# Altium schematic symbol library connectors.SchLib: 228 symbols (part 1 of 2)
Pins are listed as number, name and electrical type; pins without a type are passive.

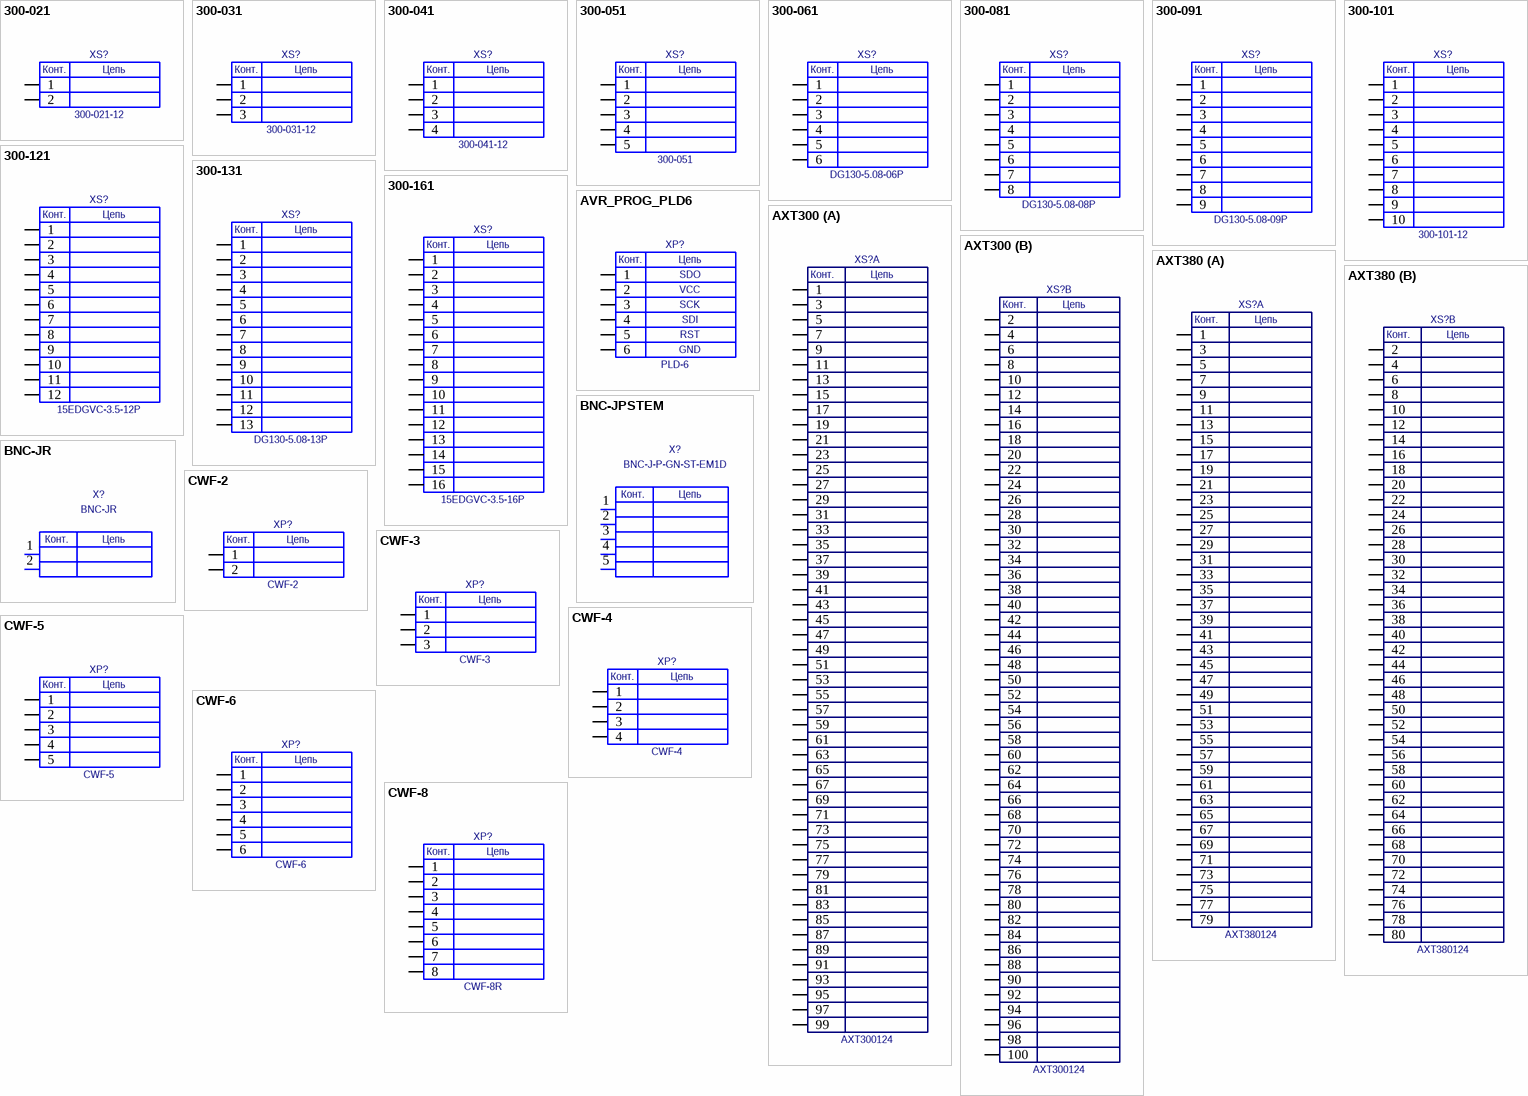
[diagram p0: symbols 300-021 to CWF-8]

## 300-021
designator XS?, comment 300-021-12
Terminal block 3.5/3.81/5/5.08mm pitch; Value: 300-021-12
footprint 300-021
footprint DG130-5.08-02P
footprint ECH381R-02P
footprint ECH381V-02P
footprint 2EDGR-5.0-02P
footprint DG250-3.5-02P-11
pins: 1, 2
text: Конт.; Цепь

## 300-031
designator XS?, comment 300-031-12
Terminal block 3.5/3.81/5/5.08mm pitch; Value: 300-031-12
footprint 300-031
footprint DG130-5.08-03P
footprint DG340-3.81-03P
footprint DG301-5.0-03P
footprint ECH381R-03P
footprint ECH381V-03P
footprint 2EDGR-5.0-03P
footprint DG250-3.5-03P-11
pins: 1, 2, 3
text: Конт.; Цепь

## 300-041
designator XS?, comment 300-041-12
Terminal block 2.54/3.5/3.81/5/5.08mm pitch; Value: 300-041-12
footprint 300-041
footprint DG340-3.81-04P
footprint DG301-5.0-04P
footprint EHDV-04P (5.08 pitch)
footprint 15EDGVC-3.5-4P
footprint ECH381V-04P
footprint 2EDGR-5.0-04P
footprint XL-029A-4P (3.81mm pitch IDC)
footprint DG308-2.54-04P
footprint DG250-3.5-04P-11
footprint ECH381R-04P
pins: 1, 2, 3, 4
text: Конт.; Цепь

## 300-051
designator XS?
Terminal block 3.5/3.81mm pitch; Value: 300-051
footprint 15EDGVC-3.5-5P
footprint ECH381V-05P
footprint 2EDGR-5.0-05P
footprint DG250-3.5-05P-11
footprint ECH381R-05P
pins: 1, 2, 3, 4, 5
text: Конт.; Цепь

## 300-061
designator XS?, comment DG130-5.08-06P
Terminal block 2.54/3.5/3.81/5mm pitch; Value: DG130-5.08-06P
footprint 2EDGR-5.0-06P
footprint DG340-3.81-06P
footprint DG308-2.54-06P
footprint DG250-3.5-06P-11
footprint ECH381R-06P
pins: 1, 2, 3, 4, 5, 6
text: Конт.; Цепь

## 300-081
designator XS?, comment DG130-5.08-08P
Terminal block 2.54/3.5/3.81/5/5.08mm pitch; Value: DG130-5.08-08P
footprint DG340-3.81-08P
footprint DG301-5.0-08P
footprint ECH381V-08P
footprint EHDV-08P (5.08 pitch)
footprint 15EDGVC-3.5-8P
footprint 2EDGR-5.0-08P
footprint XL-029A-8P (3.81mm pitch IDC)
footprint DG308-2.54-08P
footprint DG250-3.5-08P-11
footprint ECH381R-08P
pins: 1, 2, 3, 4, 5, 6, 7, 8
text: Конт.; Цепь

## 300-091
designator XS?, comment DG130-5.08-09P
Terminal block 5.08mm pitch; Value: DG130-5.08-09P
footprint DG130-5.08-09P
pins: 1, 2, 3, 4, 5, 6, 7, 8, 9
text: Конт.; Цепь

## 300-101
designator XS?, comment 300-101-12
Terminal block 3.5/3.81/5/5.08mm pitch; Value: 300-101-12
footprint ECH381V-10P
footprint 15EDGVC-3.5-10P
footprint DG130-5.08-10P
footprint 300-101
footprint DG308-2.54-10P
footprint DG250-3.5-10P-11
footprint ECH381R-10P
pins: 1, 2, 3, 4, 5, 6, 7, 8, 9, 10
text: Конт.; Цепь

## 300-121
designator XS?, comment 15EDGVC-3.5-12P
Terminal block 3.5/3.81mm pitch; Value: 15EDGVC-3.5-12P
footprint 15EDGVC-3.5-12P
footprint DG340-3.81-12P
pins: 1, 2, 3, 4, 5, 6, 7, 8, 9, 10, 11, 12
text: Конт.; Цепь

## 300-131
designator XS?, comment DG130-5.08-13P
Terminal block 5.08mm pitch; Value: DG130-5.08-13P
footprint DG130-5.08-13P
pins: 1, 2, 3, 4, 5, 6, 7, 8, 9, 10, 11, 12, 13
text: Конт.; Цепь

## 300-161
designator XS?, comment 15EDGVC-3.5-16P
Terminal block 3.5mm pitch; Value: 15EDGVC-3.5-16P
footprint 15EDGVC-3.5-16P
pins: 1, 2, 3, 4, 5, 6, 7, 8, 9, 10, 11, 12, 13, 14, 15, 16
text: Конт.; Цепь

## AVR_PROG_PLD6
designator XP?, comment PLD-6
AVR_PROG_PLD6; Value: PLD-6
footprint PLD-6
pins: 1, 2, 3, 4, 5, 6
text: Конт.; Цепь; SDO; VCC; SCK; SDI; RST; GND

## AXT300
designator XS?, comment AXT300124
0.4mm pitch double row; Value: AXT300124
footprint AXT300
footprint AXT400
footprint 52885-1074
part A pins: 1, 3, 5, 7, 9, 11, 13, 15, 17, 19, 21, 23, 25, 27, 29, 31, 33, 35, 37, 39, 41, 43, 45, 47, 49, 51, 53, 55, 57, 59, 61, 63, 65, 67, 69, 71, 73, 75, 77, 79, 81, 83, 85, 87, 89, 91, 93, 95, 97, 99
part B pins: 2, 4, 6, 8, 10, 12, 14, 16, 18, 20, 22, 24, 26, 28, 30, 32, 34, 36, 38, 40, 42, 44, 46, 48, 50, 52, 54, 56, 58, 60, 62, 64, 66, 68, 70, 72, 74, 76, 78, 80, 82, 84, 86, 88, 90, 92, 94, 96, 98, 100
part A text: Конт.; Цепь
part B text: Конт.; Цепь

## AXT380
designator XS?, comment AXT380124
0.4mm pitch double row; Value: AXT380124
footprint AXT380
footprint AXT480
part A pins: 1, 3, 5, 7, 9, 11, 13, 15, 17, 19, 21, 23, 25, 27, 29, 31, 33, 35, 37, 39, 41, 43, 45, 47, 49, 51, 53, 55, 57, 59, 61, 63, 65, 67, 69, 71, 73, 75, 77, 79
part B pins: 2, 4, 6, 8, 10, 12, 14, 16, 18, 20, 22, 24, 26, 28, 30, 32, 34, 36, 38, 40, 42, 44, 46, 48, 50, 52, 54, 56, 58, 60, 62, 64, 66, 68, 70, 72, 74, 76, 78, 80
part A text: Конт.; Цепь
part B text: Конт.; Цепь

## BNC-JPSTEM
designator X?  value BNC-J-P-GN-ST-EM1D  (hidden comment: BNC-JPSTEM)
footprint BNC-JPSTER
footprint BNC-JPSTER-step
pins: 1 C, 2 C (power), 3 C (power), 4 C (power), 5 C (power)
text: Конт.; Цепь

## BNC-JR
designator X?
Value: BNC-JR
footprint BNC-JR
pins: 1 SIGNAL, 2 SHIELD, 3 hidden, 4 hidden
text: Конт.; Цепь

## CWF-2
designator XP?
Value: CWF-2
footprint CWF-2
footprint CWF-2R
pins: 1, 2
text: Конт.; Цепь

## CWF-3
designator XP?
2.5mm pitch; Value: CWF-3
footprint CWF-3
footprint CWF-3R
pins: 1, 2, 3
text: Конт.; Цепь

## CWF-4
designator XP?
Value: CWF-4
footprint CWF-4
footprint CWF-4R
pins: 1, 2, 3, 4
text: Конт.; Цепь

## CWF-5
designator XP?
2.50mm; Value: CWF-5
footprint CWF-5
footprint CWF-5R
pins: 1, 2, 3, 4, 5
text: Конт.; Цепь

## CWF-6
designator XP?
Value: CWF-6
footprint CWF-6
footprint CWF-6R
pins: 1, 2, 3, 4, 5, 6
text: Конт.; Цепь

## CWF-8
designator XP?, comment CWF-8R
CWF-8; Value: CWF-8R
footprint CWF-8R
footprint CWF-8
pins: 1, 2, 3, 4, 5, 6, 7, 8
text: Конт.; Цепь

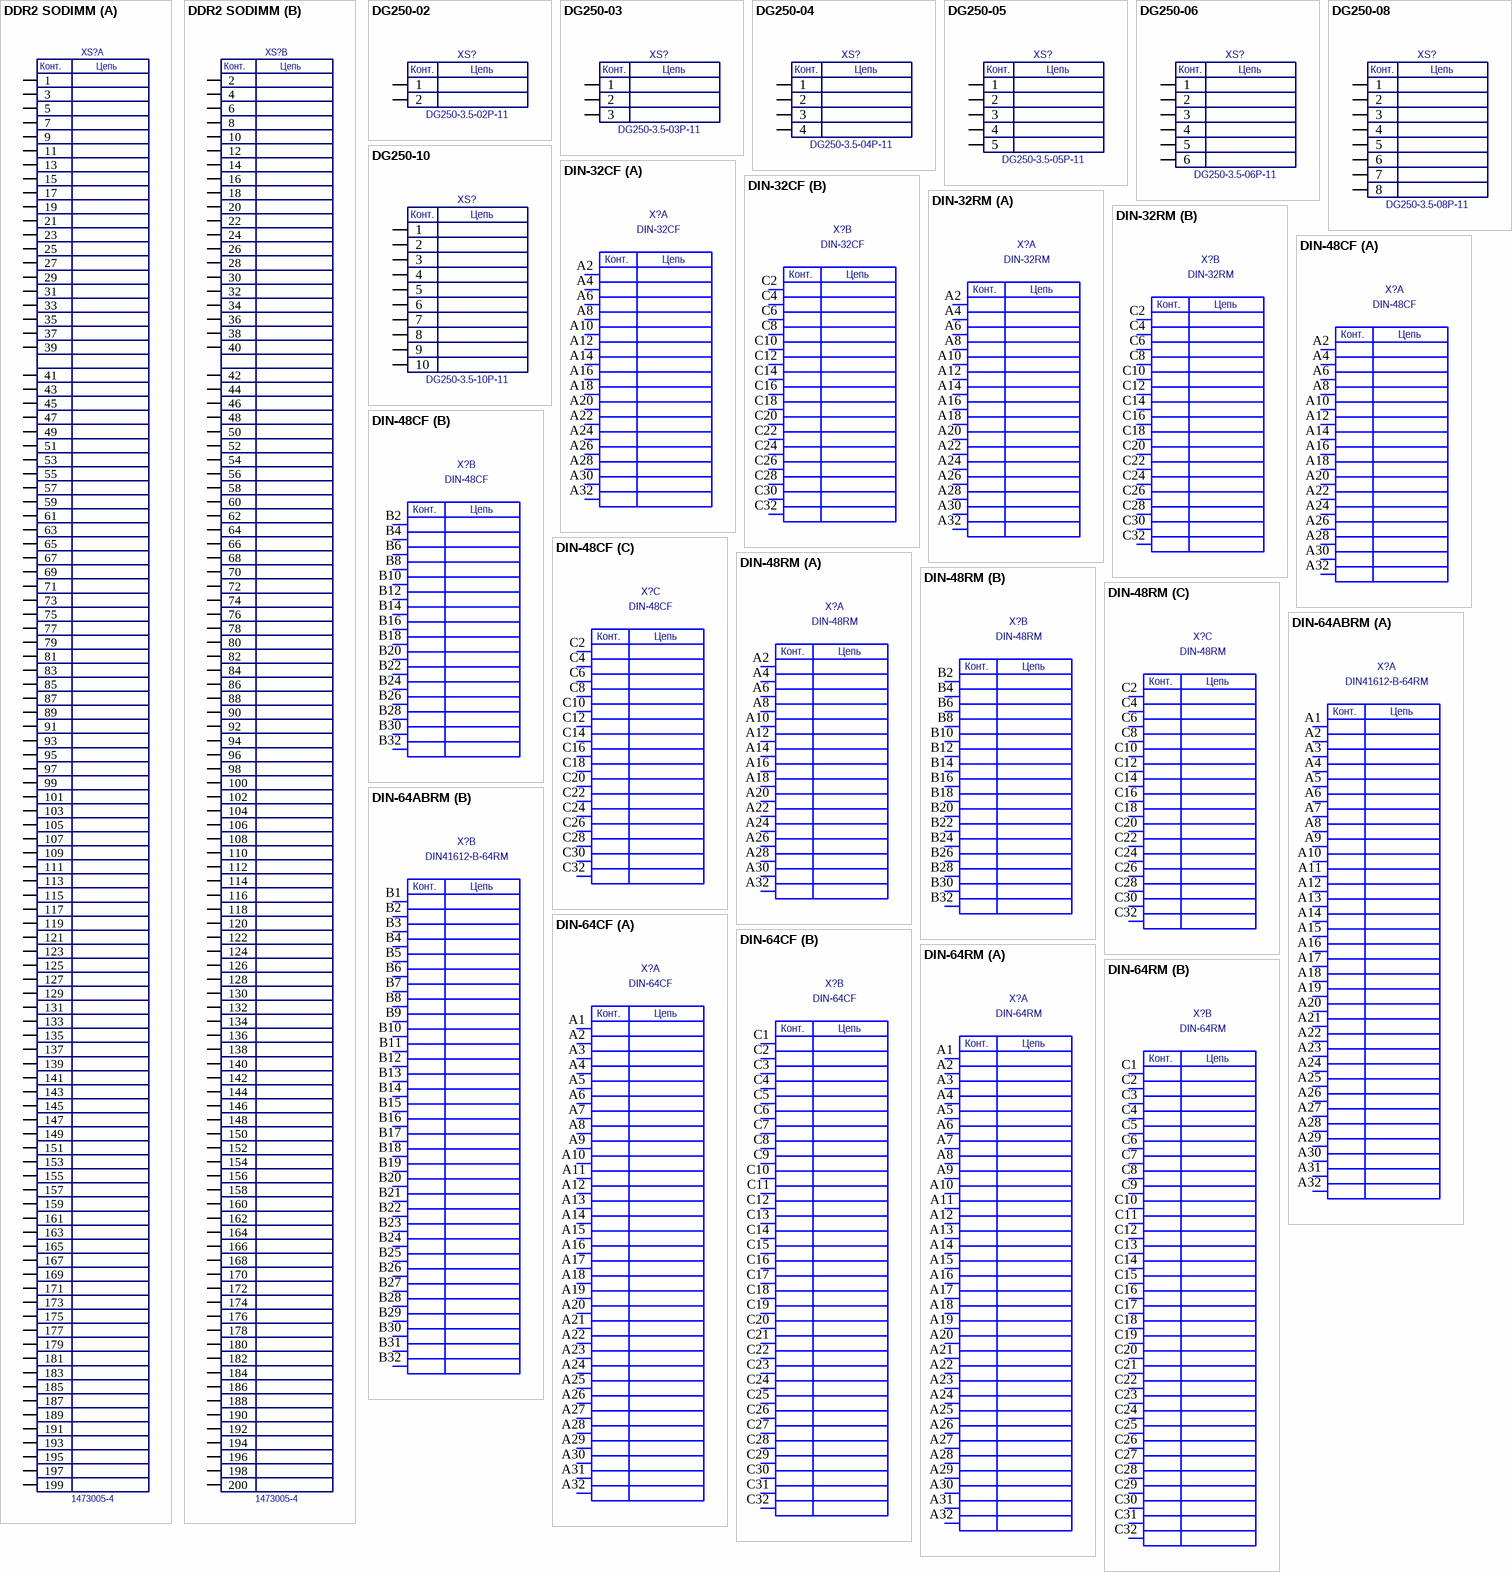
[diagram p1: symbols DDR2 SODIMM to DIN-64RM]

## DDR2 SODIMM
designator XS?, comment 1473005-4
Value: 1473005-4
footprint DDR2 SODIMM
part A pins: 1, 3, 5, 7, 9, 11, 13, 15, 17, 19, 21, 23, 25, 27, 29, 31, 33, 35, 37, 39, 41, 43, 45, 47, 49, 51, 53, 55, 57, 59, 61, 63, 65, 67, 69, 71, 73, 75, 77, 79, 81, 83, 85, 87, 89, 91, 93, 95, 97, 99, 101, 103, 105, 107, 109, 111, 113, 115, 117, 119, 121, 123, 125, 127, 129, 131, 133, 135, 137, 139, 141, 143, 145, 147, 149, 151, 153, 155, 157, 159, 161, 163, 165, 167, 169, 171, 173, 175, 177, 179, 181, 183, 185, 187, 189, 191, 193, 195, 197, 199
part B pins: 2, 4, 6, 8, 10, 12, 14, 16, 18, 20, 22, 24, 26, 28, 30, 32, 34, 36, 38, 40, 42, 44, 46, 48, 50, 52, 54, 56, 58, 60, 62, 64, 66, 68, 70, 72, 74, 76, 78, 80, 82, 84, 86, 88, 90, 92, 94, 96, 98, 100, 102, 104, 106, 108, 110, 112, 114, 116, 118, 120, 122, 124, 126, 128, 130, 132, 134, 136, 138, 140, 142, 144, 146, 148, 150, 152, 154, 156, 158, 160, 162, 164, 166, 168, 170, 172, 174, 176, 178, 180, 182, 184, 186, 188, 190, 192, 194, 196, 198, 200
part A text: Конт.; Цепь
part B text: Конт.; Цепь

## DG250-02
designator XS?, comment DG250-3.5-02P-11
Push-button terminal block 3.5mm pitch; Value: DG250-3.5-02P-11
footprint DG250-3.5-02P-UNI
pins: 1, 1A, 2, 2A
text: Конт.; Цепь

## DG250-03
designator XS?, comment DG250-3.5-03P-11
Push-button terminal block 3.5mm pitch; Value: DG250-3.5-03P-11
footprint DG250-3.5-03P-UNI
pins: 1, 1A, 2, 2A, 3, 3A
text: Конт.; Цепь

## DG250-04
designator XS?, comment DG250-3.5-04P-11
Push-button terminal block 3.5mm pitch; Value: DG250-3.5-04P-11
footprint DG250-3.5-04P-UNI
pins: 1, 1A, 2, 2A, 3, 3A, 4, 4A
text: Конт.; Цепь

## DG250-05
designator XS?, comment DG250-3.5-05P-11
Push-button terminal block 3.5mm pitch; Value: DG250-3.5-05P-11
footprint DG250-3.5-05P-UNI
pins: 1, 1A, 2, 2A, 3, 3A, 4, 4A, 5, 5A
text: Конт.; Цепь

## DG250-06
designator XS?, comment DG250-3.5-06P-11
Push-button terminal block 3.5mm pitch; Value: DG250-3.5-06P-11
footprint DG250-3.5-06P-UNI
pins: 1, 1A, 2, 2A, 3, 3A, 4, 4A, 5, 5A, 6, 6A
text: Конт.; Цепь

## DG250-08
designator XS?, comment DG250-3.5-08P-11
Push-button terminal block 3.5mm pitch; Value: DG250-3.5-08P-11
footprint DG250-3.5-08P-UNI
pins: 1, 1A, 2, 2A, 3, 3A, 4, 4A, 5, 5A, 6, 6A, 7, 7A, 8, 8A
text: Конт.; Цепь

## DG250-10
designator XS?, comment DG250-3.5-10P-11
Push-button terminal block 3.5mm pitch; Value: DG250-3.5-10P-11
footprint DG250-3.5-10P-UNI
pins: 1, 1A, 2, 2A, 3, 3A, 4, 4A, 5, 5A, 6, 6A, 7, 7A, 8, 8A, 9, 9A, 10, 10A
text: Конт.; Цепь

## DIN-32CF
designator X?
Value: DIN-32CF
footprint DIN32CF_DIN-32CF(Primary)
pins on every part: 1 hidden, 2 hidden
part A pins: A2 C, A4 C, A6 C, A8 C, A10 C, A12 C, A14 C, A16 C, A18 C, A20 C, A22 C, A24 C, A26 C, A28 C, A30 C, A32 C
part B pins: C2 C, C4 C, C6 C, C8 C, C10 C, C12 C, C14 C, C16 C, C18 C, C20 C, C22 C, C24 C, C26 C, C28 C, C30 C, C32 C
part A text: Конт.; Цепь
part B text: Конт.; Цепь

## DIN-32RM
designator X?
Value: DIN-32RM
footprint DIN32RM_DIN-32RM(Primary)
pins on every part: 1 hidden, 2 hidden
part A pins: A2 C, A4 C, A6 C, A8 C, A10 C, A12 C, A14 C, A16 C, A18 C, A20 C, A22 C, A24 C, A26 C, A28 C, A30 C, A32 C
part B pins: C2 C, C4 C, C6 C, C8 C, C10 C, C12 C, C14 C, C16 C, C18 C, C20 C, C22 C, C24 C, C26 C, C28 C, C30 C, C32 C
part A text: Конт.; Цепь
part B text: Конт.; Цепь

## DIN-48CF
designator X?
Value: DIN-48CF
footprint DIN48CF_DIN-48CF(Primary)
pins on every part: 1 hidden, 2 hidden
part A pins: A2 C, A4 C, A6 C, A8 C, A10 C, A12 C, A14 C, A16 C, A18 C, A20 C, A22 C, A24 C, A26 C, A28 C, A30 C, A32 C
part B pins: B2 C, B4 C, B6 C, B8 C, B10 C, B12 C, B14 C, B16 C, B18 C, B20 C, B22 C, B24 C, B26 C, B28 C, B30 C, B32 C
part C pins: C2 C, C4 C, C6 C, C8 C, C10 C, C12 C, C14 C, C16 C, C18 C, C20 C, C22 C, C24 C, C26 C, C28 C, C30 C, C32 C
part A text: Конт.; Цепь
part B text: Конт.; Цепь
part C text: Конт.; Цепь

## DIN-48RM
designator X?
Value: DIN-48RM
footprint DIN48RM_DIN-48RM(Primary)
pins on every part: 1 hidden, 2 hidden
part A pins: A2 C, A4 C, A6 C, A8 C, A10 C, A12 C, A14 C, A16 C, A18 C, A20 C, A22 C, A24 C, A26 C, A28 C, A30 C, A32 C
part B pins: B2 C, B4 C, B6 C, B8 C, B10 C, B12 C, B14 C, B16 C, B18 C, B20 C, B22 C, B24 C, B26 C, B28 C, B30 C, B32 C
part C pins: C2 C, C4 C, C6 C, C8 C, C10 C, C12 C, C14 C, C16 C, C18 C, C20 C, C22 C, C24 C, C26 C, C28 C, C30 C, C32 C
part A text: Конт.; Цепь
part B text: Конт.; Цепь
part C text: Конт.; Цепь

## DIN-64ABRM
designator X?  value DIN41612-B-64RM  (hidden comment: DIN-64ABRM)
footprint DIN64ABRM_DIN-64ABRM(Primary)
pins on every part: 1 hidden, 2 hidden
part A pins: A1 C, A2 C, A3 C, A4 C, A5 C, A6 C, A7 C, A8 C, A9 C, A10 C, A11 C, A12 C, A13 C, A14 C, A15 C, A16 C, A17 C, A18 C, A19 C, A20 C, A21 C, A22 C, A23 C, A24 C, A25 C, A26 C, A27 C, A28 C, A29 C, A30 C, A31 C, A32 C
part B pins: B1 C, B2 C, B3 C, B4 C, B5 C, B6 C, B7 C, B8 C, B9 C, B10 C, B11 C, B12 C, B13 C, B14 C, B15 C, B16 C, B17 C, B18 C, B19 C, B20 C, B21 C, B22 C, B23 C, B24 C, B25 C, B26 C, B27 C, B28 C, B29 C, B30 C, B31 C, B32 C
part A text: Конт.; Цепь
part B text: Конт.; Цепь

## DIN-64CF
designator X?
Value: DIN-64CF
footprint DIN64CF_DIN-64CF(Primary)
pins on every part: 1 hidden, 2 hidden
part A pins: A1 C, A2 C, A3 C, A4 C, A5 C, A6 C, A7 C, A8 C, A9 C, A10 C, A11 C, A12 C, A13 C, A14 C, A15 C, A16 C, A17 C, A18 C, A19 C, A20 C, A21 C, A22 C, A23 C, A24 C, A25 C, A26 C, A27 C, A28 C, A29 C, A30 C, A31 C, A32 C
part B pins: C1 C, C2 C, C3 C, C4 C, C5 C, C6 C, C7 C, C8 C, C9 C, C10 C, C11 C, C12 C, C13 C, C14 C, C15 C, C16 C, C17 C, C18 C, C19 C, C20 C, C21 C, C22 C, C23 C, C24 C, C25 C, C26 C, C27 C, C28 C, C29 C, C30 C, C31 C, C32 C
part A text: Конт.; Цепь
part B text: Конт.; Цепь

## DIN-64RM
designator X?
Value: DIN-64RM
footprint DIN64RM_DIN-64RM(Primary)
pins on every part: 1 hidden, 2 hidden
part A pins: A1 C, A2 C, A3 C, A4 C, A5 C, A6 C, A7 C, A8 C, A9 C, A10 C, A11 C, A12 C, A13 C, A14 C, A15 C, A16 C, A17 C, A18 C, A19 C, A20 C, A21 C, A22 C, A23 C, A24 C, A25 C, A26 C, A27 C, A28 C, A29 C, A30 C, A31 C, A32 C
part B pins: C1 C, C2 C, C3 C, C4 C, C5 C, C6 C, C7 C, C8 C, C9 C, C10 C, C11 C, C12 C, C13 C, C14 C, C15 C, C16 C, C17 C, C18 C, C19 C, C20 C, C21 C, C22 C, C23 C, C24 C, C25 C, C26 C, C27 C, C28 C, C29 C, C30 C, C31 C, C32 C
part A text: Конт.; Цепь
part B text: Конт.; Цепь

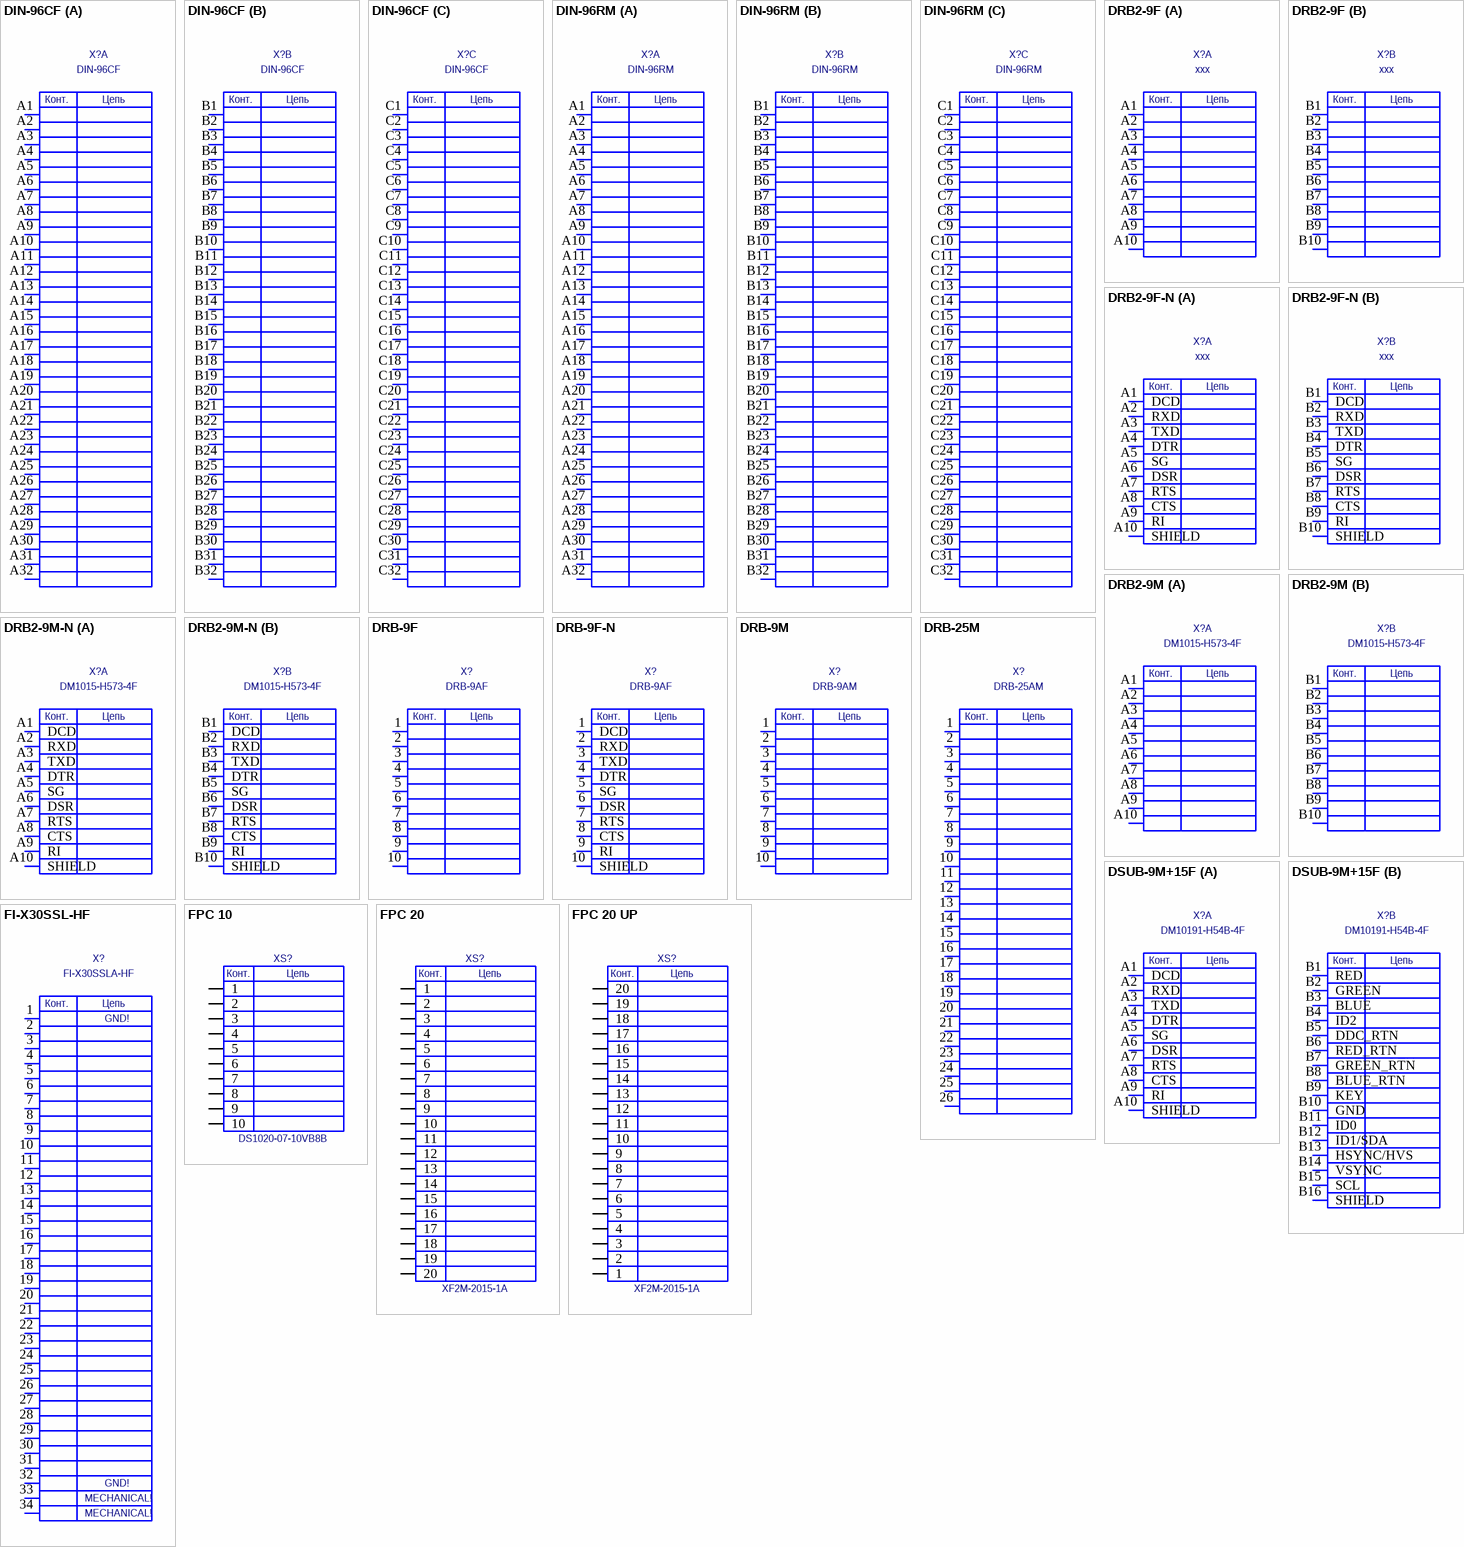
[diagram p2: symbols DIN-96CF to FPC 20 UP]

## DIN-96CF
designator X?
Value: DIN-96CF
footprint DIN96CF_DIN-96CF(Primary)
pins on every part: 1 hidden, 2 hidden
part A pins: A1 C, A2 C, A3 C, A4 C, A5 C, A6 C, A7 C, A8 C, A9 C, A10 C, A11 C, A12 C, A13 C, A14 C, A15 C, A16 C, A17 C, A18 C, A19 C, A20 C, A21 C, A22 C, A23 C, A24 C, A25 C, A26 C, A27 C, A28 C, A29 C, A30 C, A31 C, A32 C
part B pins: B1 C, B2 C, B3 C, B4 C, B5 C, B6 C, B7 C, B8 C, B9 C, B10 C, B11 C, B12 C, B13 C, B14 C, B15 C, B16 C, B17 C, B18 C, B19 C, B20 C, B21 C, B22 C, B23 C, B24 C, B25 C, B26 C, B27 C, B28 C, B29 C, B30 C, B31 C, B32 C
part C pins: C1 C, C2 C, C3 C, C4 C, C5 C, C6 C, C7 C, C8 C, C9 C, C10 C, C11 C, C12 C, C13 C, C14 C, C15 C, C16 C, C17 C, C18 C, C19 C, C20 C, C21 C, C22 C, C23 C, C24 C, C25 C, C26 C, C27 C, C28 C, C29 C, C30 C, C31 C, C32 C
part A text: Конт.; Цепь
part B text: Конт.; Цепь
part C text: Конт.; Цепь

## DIN-96RM
designator X?
Value: DIN-96RM
footprint DIN96RM_DIN-96RM(Primary)
part A pins: A1 C, A2 C, A3 C, A4 C, A5 C, A6 C, A7 C, A8 C, A9 C, A10 C, A11 C, A12 C, A13 C, A14 C, A15 C, A16 C, A17 C, A18 C, A19 C, A20 C, A21 C, A22 C, A23 C, A24 C, A25 C, A26 C, A27 C, A28 C, A29 C, A30 C, A31 C, A32 C
part B pins: B1 C, B2 C, B3 C, B4 C, B5 C, B6 C, B7 C, B8 C, B9 C, B10 C, B11 C, B12 C, B13 C, B14 C, B15 C, B16 C, B17 C, B18 C, B19 C, B20 C, B21 C, B22 C, B23 C, B24 C, B25 C, B26 C, B27 C, B28 C, B29 C, B30 C, B31 C, B32 C
part C pins: C1 C, C2 C, C3 C, C4 C, C5 C, C6 C, C7 C, C8 C, C9 C, C10 C, C11 C, C12 C, C13 C, C14 C, C15 C, C16 C, C17 C, C18 C, C19 C, C20 C, C21 C, C22 C, C23 C, C24 C, C25 C, C26 C, C27 C, C28 C, C29 C, C30 C, C31 C, C32 C
part A text: Конт.; Цепь
part B text: Конт.; Цепь
part C text: Конт.; Цепь

## DRB2-9F
designator X?  value xxx  (hidden comment: DRB2-9F)
footprint DRB2-9F_DRB2-9F(Primary)
pins on every part: A11 hidden, B11 hidden
part A pins: A1 C, A2 C, A3 C, A4 C, A5 C, A6 C, A7 C, A8 C, A9 C, A10 SHIELD
part B pins: B1 C, B2 C, B3 C, B4 C, B5 C, B6 C, B7 C, B8 C, B9 C, B10 SHIELD
part A text: Конт.; Цепь
part B text: Конт.; Цепь

## DRB2-9F-N
designator X?  value xxx  (hidden comment: DRB2-9F-N)
footprint DRB2-9F_DRB2-9F-N(Primary)
pins on every part: A11 hidden, B11 hidden
part A pins: A1 DCD, A2 RXD, A3 TXD, A4 DTR, A5 SG, A6 DSR, A7 RTS, A8 CTS, A9 RI, A10 SHIELD
part B pins: B1 DCD, B2 RXD, B3 TXD, B4 DTR, B5 SG, B6 DSR, B7 RTS, B8 CTS, B9 RI, B10 SHIELD
part A text: Конт.; Цепь
part B text: Конт.; Цепь

## DRB2-9M
designator X?  value DM1015-H573-4F  (hidden comment: DRB2-9M)
footprint DRB2-9M_DRB2-9M(Primary)
pins on every part: A11 hidden, B11 hidden
part A pins: A1 C, A2 C, A3 C, A4 C, A5 C, A6 C, A7 C, A8 C, A9 C, A10 C
part B pins: B1 C, B2 C, B3 C, B4 C, B5 C, B6 C, B7 C, B8 C, B9 C, B10 C
part A text: Конт.; Цепь
part B text: Конт.; Цепь

## DRB2-9M-N
designator X?  value DM1015-H573-4F  (hidden comment: DRB2-9M-N)
footprint DRB2-9M_DRB2-9M-N(Primary)
pins on every part: A11 hidden, B11 hidden
part A pins: A1 DCD, A2 RXD, A3 TXD, A4 DTR, A5 SG, A6 DSR, A7 RTS, A8 CTS, A9 RI, A10 SHIELD
part B pins: B1 DCD, B2 RXD, B3 TXD, B4 DTR, B5 SG, B6 DSR, B7 RTS, B8 CTS, B9 RI, B10 SHIELD
part A text: Конт.; Цепь
part B text: Конт.; Цепь

## DRB-9F
designator X?  value DRB-9AF  (hidden comment: DRB-9F)
footprint DRB-9F
pins: 1 C, 2 C, 3 C, 4 C, 5 C, 6 C, 7 C, 8 C, 9 C, 10 C, 11 hidden
text: Конт.; Цепь

## DRB-9F-N
designator X?  value DRB-9AF  (hidden comment: DRB-9F-N)
footprint DRB-9F
pins: 1 DCD, 2 RXD, 3 TXD, 4 DTR, 5 SG, 6 DSR, 7 RTS, 8 CTS, 9 RI, 10 SHIELD, 11 hidden
text: Конт.; Цепь

## DRB-9M
designator X?  value DRB-9AM  (hidden comment: DRB-9M)
footprint DRB-9M
pins: 1 C, 2 C, 3 C, 4 C, 5 C, 6 C, 7 C, 8 C, 9 C, 10 C, 11 hidden
text: Конт.; Цепь

## DRB-25M
designator X?  value DRB-25AM  (hidden comment: DRB-25M)
footprint DRB-25M
pins: 1 C, 2 C, 3 C, 4 C, 5 C, 6 C, 7 C, 8 C, 9 C, 10 C, 11 C, 12 C, 13 C, 14 C, 15 C, 16 C, 17 C, 18 C, 19 C, 20 C, 21 C, 22 C, 23 C, 24 C, 25 C, 26 C, 27 hidden
text: Конт.; Цепь

## DSUB-9M+15F
designator X?  value DM10191-H54B-4F  (hidden comment: DSUB-9M+15F)
footprint DSUB-9M+15F_DSUB-9M+15F(Primary)
pins on every part: A11 hidden, B17 hidden
part A pins: A1 DCD, A2 RXD, A3 TXD, A4 DTR, A5 SG, A6 DSR, A7 RTS, A8 CTS, A9 RI, A10 SHIELD
part B pins: B1 RED, B2 GREEN, B3 BLUE, B4 ID2, B5 DDC_RTN, B6 RED_RTN, B7 GREEN_RTN, B8 BLUE_RTN, B9 KEY, B10 GND, B11 ID0, B12 ID1/SDA, B13 HSYNC/HVS, B14 VSYNC, B15 SCL, B16 SHIELD
part A text: Конт.; Цепь
part B text: Конт.; Цепь

## FI-X30SSL-HF
designator X?, comment FI-X30SSLA-HF
Value: FI-X30SSLA-HF
footprint FI-X30SSL-HF
pins: 1 C, 2 C, 3 C, 4 C, 5 C, 6 C, 7 C, 8 C, 9 C, 10 C, 11 C, 12 C, 13 C, 14 C, 15 C, 16 C, 17 C, 18 C, 19 C, 20 C, 21 C, 22 C, 23 C, 24 C, 25 C, 26 C, 27 C, 28 C, 29 C, 30 C, 31 C, 32 C, 33 C, 34 C
text: Конт.; Цепь; GND!; MECHANICAL!

## FPC 10
designator XS?, comment DS1020-07-10VB8B
Value: DS1020-07-10VB8B
footprint FDZ-ST-10 (2.54mm pitch double FPC)
footprint FDZ-BT-10 (2.54mm pitch double FPC)
footprint DS1020-07-10A (1mm pitch bottom FPC)
footprint DS1020-07-10B (1mm pitch top FPC)
pins: 1, 2, 3, 4, 5, 6, 7, 8, 9, 10
text: Конт.; Цепь

## FPC 20
designator XS?, comment XF2M-2015-1A
Value: XF2M-2015-1A
footprint XF2M-2015-1A (T) (0.5mm pitch FPC (top contacts))
footprint XF2M-2015-1A (B) (0.5mm pitch FPC (bottom contacts))
pins: 1, 2, 3, 4, 5, 6, 7, 8, 9, 10, 11, 12, 13, 14, 15, 16, 17, 18, 19, 20
text: Конт.; Цепь

## FPC 20 UP
designator XS?, comment XF2M-2015-1A
Value: XF2M-2015-1A
footprint XF2M-2015-1A (T) (0.5mm pitch FPC (top contacts))
footprint XF2M-2015-1A (B) (0.5mm pitch FPC (bottom contacts))
pins: 1, 2, 3, 4, 5, 6, 7, 8, 9, 10, 11, 12, 13, 14, 15, 16, 17, 18, 19, 20
text: Конт.; Цепь

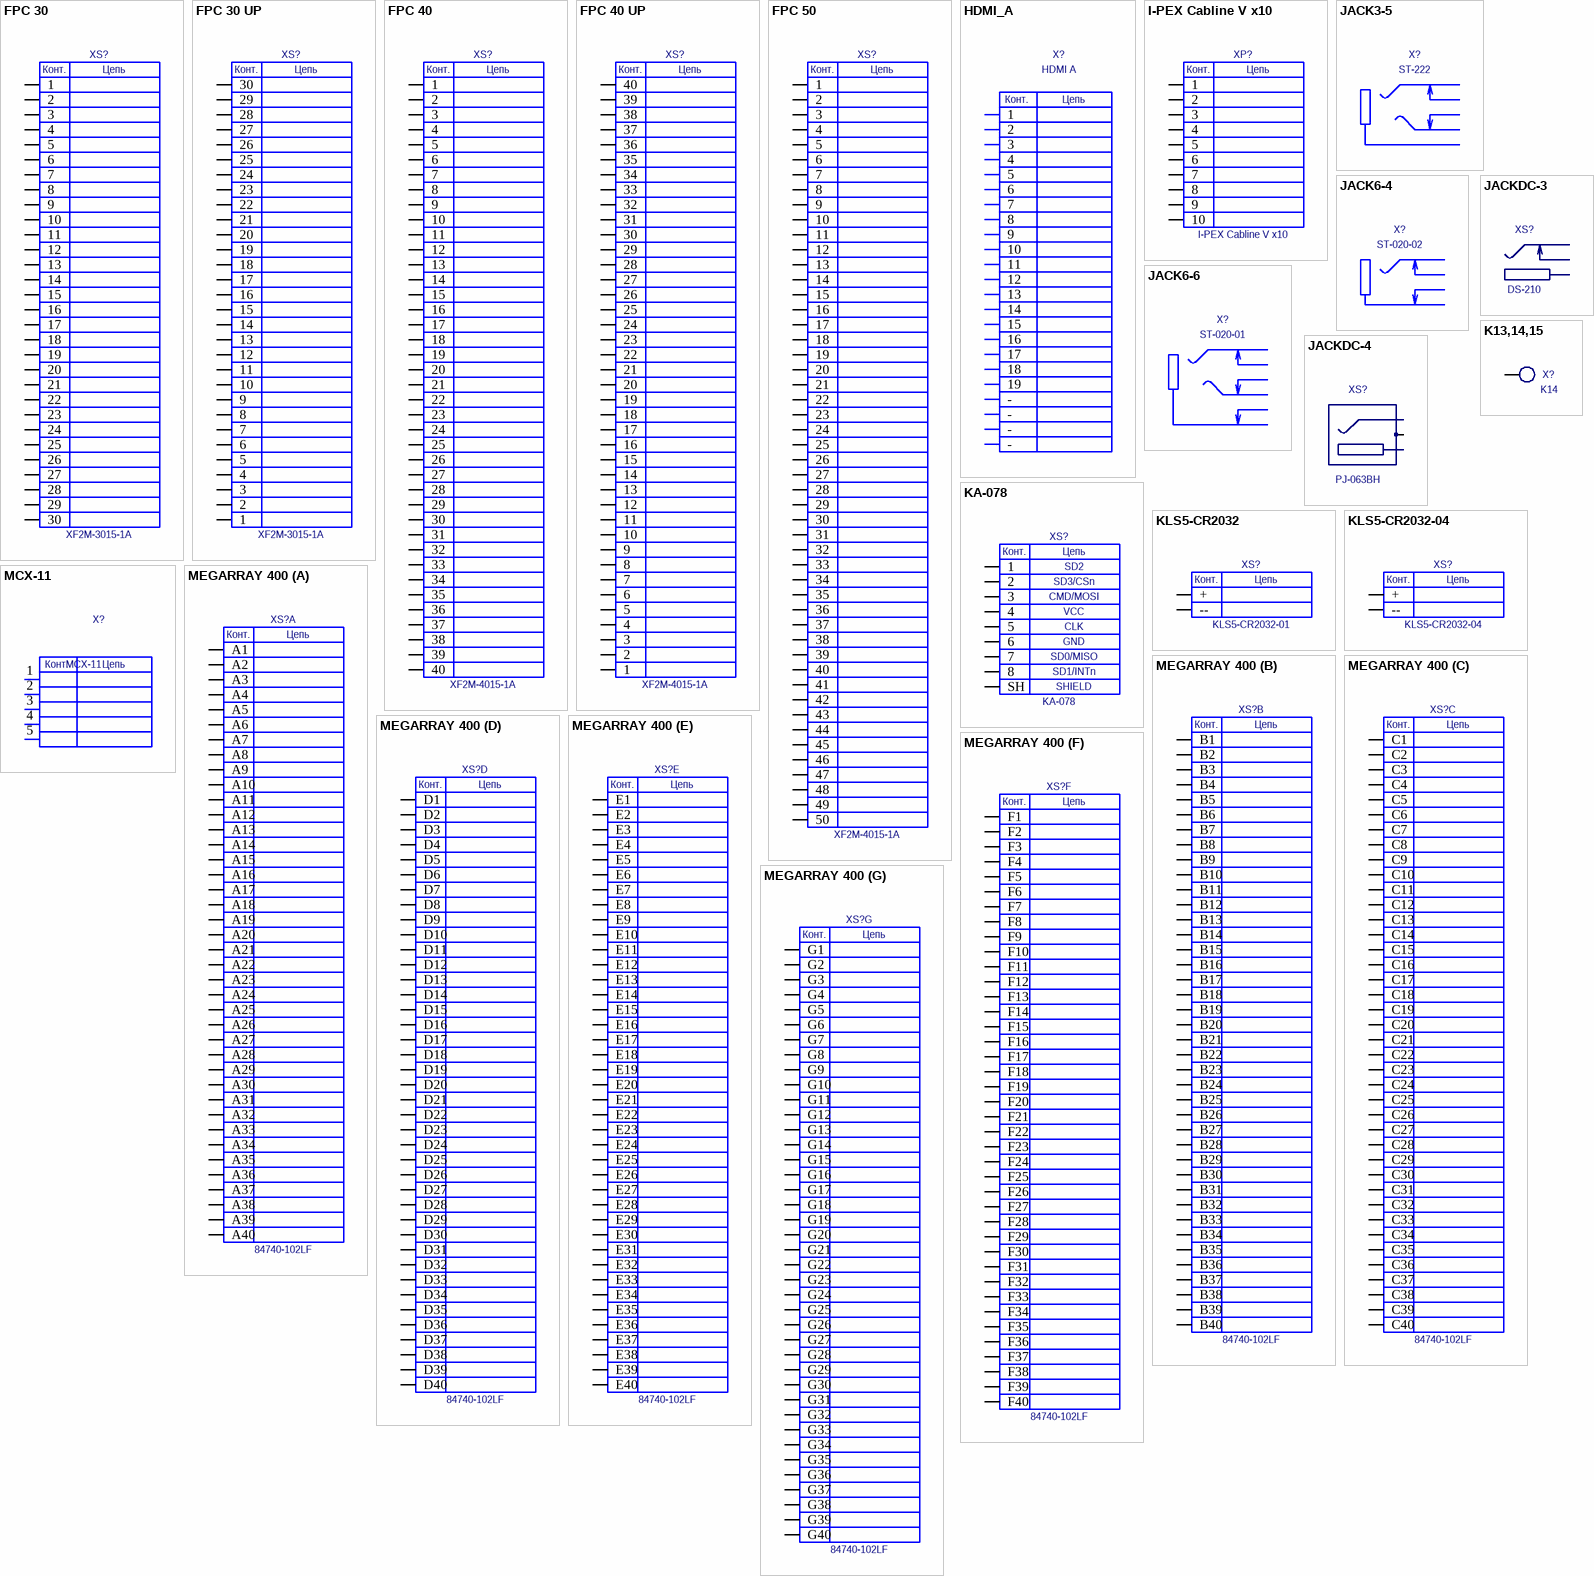
[diagram p3: symbols FPC 30 to MEGARRAY 400]

## FPC 30
designator XS?, comment XF2M-3015-1A
Value: XF2M-3015-1A
footprint XF2M-3015-1A (T) (0.5mm pitch FPC (top contacts))
footprint TE 84953-30 (1mm pitch top FPC)
footprint XF2M-3015-1A (B) (0.5mm pitch FPC (bottom contacts))
pins: 1, 2, 3, 4, 5, 6, 7, 8, 9, 10, 11, 12, 13, 14, 15, 16, 17, 18, 19, 20, 21, 22, 23, 24, 25, 26, 27, 28, 29, 30
text: Конт.; Цепь

## FPC 30 UP
designator XS?, comment XF2M-3015-1A
Value: XF2M-3015-1A
footprint XF2M-3015-1A (T) (0.5mm pitch FPC (top contacts))
footprint TE 84953-30 (1mm pitch top FPC)
footprint XF2M-3015-1A (B) (0.5mm pitch FPC (bottom contacts))
pins: 1, 2, 3, 4, 5, 6, 7, 8, 9, 10, 11, 12, 13, 14, 15, 16, 17, 18, 19, 20, 21, 22, 23, 24, 25, 26, 27, 28, 29, 30
text: Конт.; Цепь

## FPC 40
designator XS?, comment XF2M-4015-1A
Value: XF2M-4015-1A
footprint XF2M-4015-1A (T) (0.5mm pitch FPC (top contacts))
footprint FH12-40S-0.5SVA
footprint FH33-40S-0.5SH (0.5mm pitch horizontal)
footprint FH33-40S-0.5SH-STEP (0.5mm pitch horizontal)
footprint XF2M-4015-1A (B) (0.5mm pitch FPC (bottom contacts))
pins: 1, 2, 3, 4, 5, 6, 7, 8, 9, 10, 11, 12, 13, 14, 15, 16, 17, 18, 19, 20, 21, 22, 23, 24, 25, 26, 27, 28, 29, 30, 31, 32, 33, 34, 35, 36, 37, 38, 39, 40
text: Конт.; Цепь

## FPC 40 UP
designator XS?, comment XF2M-4015-1A
Value: XF2M-4015-1A
footprint XF2M-4015-1A (T) (0.5mm pitch FPC (top contacts))
footprint FH12-40S-0.5SVA
footprint FH33-40S-0.5SH (0.5mm pitch horizontal)
footprint FH33-40S-0.5SH-STEP (0.5mm pitch horizontal)
footprint XF2M-4015-1A (B) (0.5mm pitch FPC (bottom contacts))
pins: 1, 2, 3, 4, 5, 6, 7, 8, 9, 10, 11, 12, 13, 14, 15, 16, 17, 18, 19, 20, 21, 22, 23, 24, 25, 26, 27, 28, 29, 30, 31, 32, 33, 34, 35, 36, 37, 38, 39, 40
text: Конт.; Цепь

## FPC 50
designator XS?, comment XF2M-4015-1A
Value: XF2M-4015-1A
footprint FH12-50S-0.5SVA (0.5mm pitch vertical)
pins: 1, 2, 3, 4, 5, 6, 7, 8, 9, 10, 11, 12, 13, 14, 15, 16, 17, 18, 19, 20, 21, 22, 23, 24, 25, 26, 27, 28, 29, 30, 31, 32, 33, 34, 35, 36, 37, 38, 39, 40, 41, 42, 43, 44, 45, 46, 47, 48, 49, 50
text: Конт.; Цепь

## HDMI_A
designator X?, comment HDMI A
HDMI PCB connector; Value: HDMI A
footprint HDMI-A-1903015
footprint HDMI-A-1827059
pins: 1, 2, 3, 4, 5, 6, 7, 8, 9, 10, 11, 12, 13, 14, 15, 16, 17, 18, 19, 20 -, 21 -, 22 -, 23 -
text: Конт.; Цепь

## I-PEX Cabline V x10
designator XP?  (no BOM)
0.4mm pitch edge; Value: I-PEX Cabline V x10
footprint I-PEX Cabline V x10 (Edge board connector)
pins: 1, 2, 3, 4, 5, 6, 7, 8, 9, 10
text: Конт.; Цепь

## JACK3-5
designator X?  value ST-222  (hidden comment: JACK3-5)
footprint JACK3-5
pins: 1 GND, 2 TIP, 3 RING, 4 TIPNC, 5 RINGNC

## JACK6-4
designator X?  value ST-020-02  (hidden comment: JACK6-4)
footprint JACK6-4_JACK6-4(Primary)
pins: 1 GND, 3 TIP, 4 TIPNC, 6 GNDNC

## JACK6-6
designator X?  value ST-020-01  (hidden comment: JACK6-6)
footprint JACK6-6
pins: 1 GND, 2 RING, 3 TIP, 4 TIPNC, 5 RINGNC, 6 GNDNC

## JACKDC-3
designator XS?, comment DS-210
JACKDC-3; Value: DS-210
footprint JACKDC-3
pins: 1 TIP, 2 RING, 3 RINGNC

## JACKDC-4
designator XS?, comment PJ-063BH
PJ-063BH (8Amp); Value: PJ-063BH
footprint JACKDC-4 (PJ-063BH)
pins: 1 TIP, 2 RING, 3 SHIELD, 4 SHIELD

## K13,14,15
designator X?, comment K14
Klemma; Value: K14
footprint K14
footprint K15
pins: 1, 2, 3, 4

## KA-078
designator XS?
microSD holder; Analog: Molex 472192001; Value: KA-078
footprint KA-078 (microSD hinged)
pins: 1, 2, 3, 4, 5, 6, 7, 8, G1 SH, G2 SH, G3 SH, G4 SH
text: Конт.; Цепь; SD2; SD3/CSn; CMD/MOSI; VCC; CLK; GND; SD0/MISO; SD1/INTn; SHIELD

## KLS5-CR2032
designator XS?, comment KLS5-CR2032-01
CR2032 holder; Value: KLS5-CR2032-01
footprint KLS5-CR2032-01 (CR2032 holder)
pins: +, - --
text: Конт.; Цепь

## KLS5-CR2032-04
designator XS?
CR2032 holder; Value: KLS5-CR2032-04
footprint KLS5-CR2032-04 (CR2032 holder)
pins: +1 +, +2 +, --
text: Конт.; Цепь

## MCX-11
designator X?
Value: MCX-11
footprint MCX-11
footprint MCX-11V4
footprint MCX-11V5
pins: 1 C, 2 C (power), 3 C (power), 4 C (power), 5 C (power)
text: Конт.; Цепь

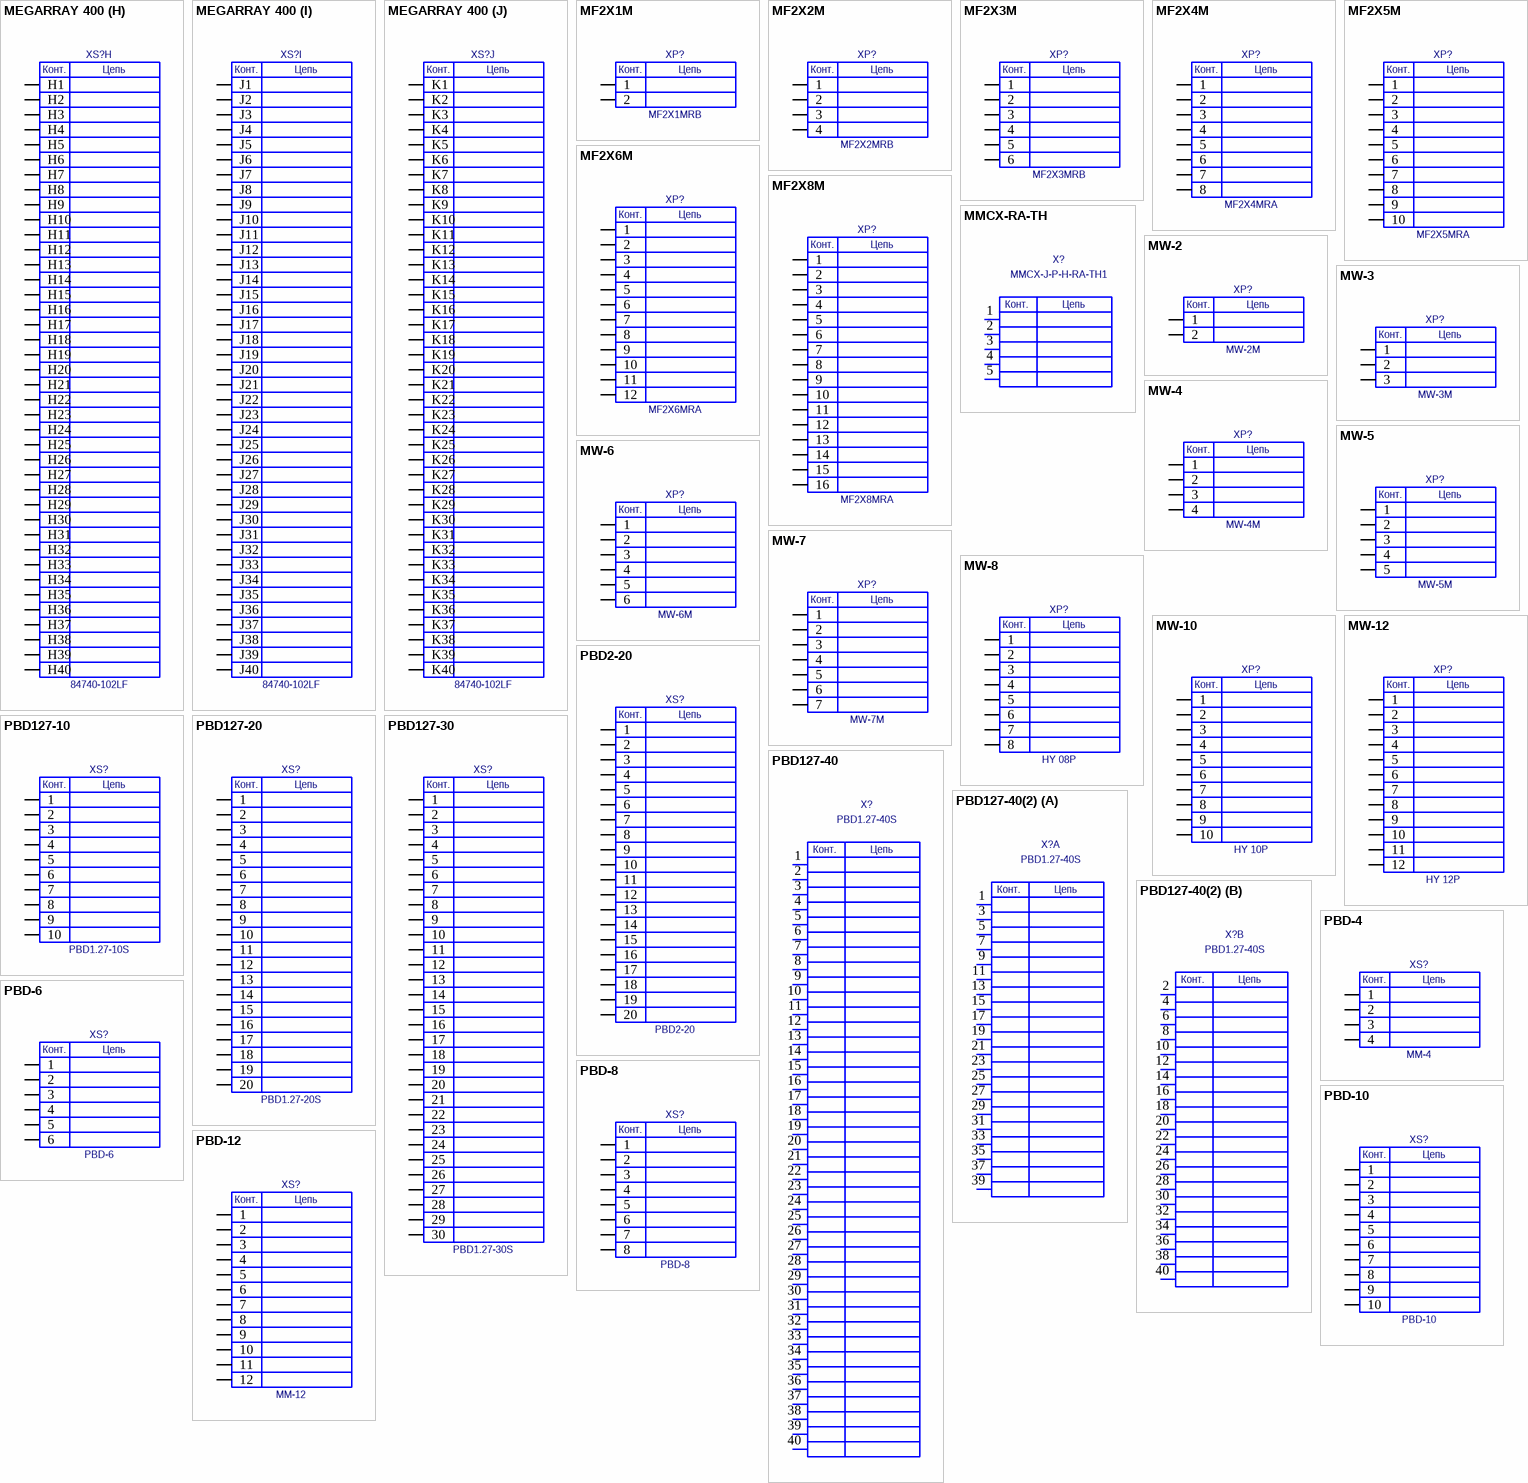
[diagram p4: symbols MEGARRAY 400 to PBD-12]

## MEGARRAY 400
designator XS?, comment 84740-102LF
Value: 84740-102LF
footprint MEGARRAY 400F 0mm (84740)
footprint MEGARRAY 400F 6mm (84520)
part A pins: A1, A2, A3, A4, A5, A6, A7, A8, A9, A10, A11, A12, A13, A14, A15, A16, A17, A18, A19, A20, A21, A22, A23, A24, A25, A26, A27, A28, A29, A30, A31, A32, A33, A34, A35, A36, A37, A38, A39, A40
part B pins: B1, B2, B3, B4, B5, B6, B7, B8, B9, B10, B11, B12, B13, B14, B15, B16, B17, B18, B19, B20, B21, B22, B23, B24, B25, B26, B27, B28, B29, B30, B31, B32, B33, B34, B35, B36, B37, B38, B39, B40
part C pins: C1, C2, C3, C4, C5, C6, C7, C8, C9, C10, C11, C12, C13, C14, C15, C16, C17, C18, C19, C20, C21, C22, C23, C24, C25, C26, C27, C28, C29, C30, C31, C32, C33, C34, C35, C36, C37, C38, C39, C40
part D pins: D1, D2, D3, D4, D5, D6, D7, D8, D9, D10, D11, D12, D13, D14, D15, D16, D17, D18, D19, D20, D21, D22, D23, D24, D25, D26, D27, D28, D29, D30, D31, D32, D33, D34, D35, D36, D37, D38, D39, D40
part E pins: E1, E2, E3, E4, E5, E6, E7, E8, E9, E10, E11, E12, E13, E14, E15, E16, E17, E18, E19, E20, E21, E22, E23, E24, E25, E26, E27, E28, E29, E30, E31, E32, E33, E34, E35, E36, E37, E38, E39, E40
part F pins: F1, F2, F3, F4, F5, F6, F7, F8, F9, F10, F11, F12, F13, F14, F15, F16, F17, F18, F19, F20, F21, F22, F23, F24, F25, F26, F27, F28, F29, F30, F31, F32, F33, F34, F35, F36, F37, F38, F39, F40
part G pins: G1, G2, G3, G4, G5, G6, G7, G8, G9, G10, G11, G12, G13, G14, G15, G16, G17, G18, G19, G20, G21, G22, G23, G24, G25, G26, G27, G28, G29, G30, G31, G32, G33, G34, G35, G36, G37, G38, G39, G40
part H pins: H1, H2, H3, H4, H5, H6, H7, H8, H9, H10, H11, H12, H13, H14, H15, H16, H17, H18, H19, H20, H21, H22, H23, H24, H25, H26, H27, H28, H29, H30, H31, H32, H33, H34, H35, H36, H37, H38, H39, H40
part I pins: J1, J2, J3, J4, J5, J6, J7, J8, J9, J10, J11, J12, J13, J14, J15, J16, J17, J18, J19, J20, J21, J22, J23, J24, J25, J26, J27, J28, J29, J30, J31, J32, J33, J34, J35, J36, J37, J38, J39, J40
part J pins: K1, K2, K3, K4, K5, K6, K7, K8, K9, K10, K11, K12, K13, K14, K15, K16, K17, K18, K19, K20, K21, K22, K23, K24, K25, K26, K27, K28, K29, K30, K31, K32, K33, K34, K35, K36, K37, K38, K39, K40
part A text: Конт.; Цепь
part B text: Конт.; Цепь
part C text: Конт.; Цепь
part D text: Конт.; Цепь
part E text: Конт.; Цепь
part F text: Конт.; Цепь
part G text: Конт.; Цепь
part H text: Конт.; Цепь
part I text: Конт.; Цепь
part J text: Конт.; Цепь

## MF2X1M
designator XP?, comment MF2X1MRB
MiniFit2; Value: MF2X1MRB
footprint MF2X1R3
footprint MF2X1R2
footprint MF2X1R1
footprint MF2X1R
footprint MF2X1
pins: 1, 2
text: Конт.; Цепь

## MF2X2M
designator XP?, comment MF2X2MRB
MiniFit4; Value: MF2X2MRB
footprint MF2X2R3
footprint MF2X2R2
footprint MF2X2R1
footprint MF2X2R
footprint MF2X2
pins: 1, 2, 3, 4
text: Конт.; Цепь

## MF2X3M
designator XP?, comment MF2X3MRB
MiniFit6; Value: MF2X3MRB
footprint MF2X3R3
footprint MF2X3R2
footprint MF2X3R1
footprint MF2X3R
footprint MF2x3
footprint MF2x3 (PCIe)
pins: 1, 2, 3, 4, 5, 6
text: Конт.; Цепь

## MF2X4M
designator XP?, comment MF2X4MRA
MiniFit8; Value: MF2X4MRA
footprint MF2X4R3
footprint MF2X4R2
footprint MF2X4R1
footprint MF2X4R
footprint MF2x4
footprint MF2x4 (PCIe)
pins: 1, 2, 3, 4, 5, 6, 7, 8
text: Конт.; Цепь

## MF2X5M
designator XP?, comment MF2X5MRA
MiniFit10; Value: MF2X5MRA
footprint MF2X5R1
footprint MF2x5
footprint MF2x5R
footprint MF2x5R2
footprint MF2x5R3
pins: 1, 2, 3, 4, 5, 6, 7, 8, 9, 10
text: Конт.; Цепь

## MF2X6M
designator XP?, comment MF2X6MRA
MiniFit12; Value: MF2X6MRA
footprint MF2X6R1
footprint MF2x6
footprint MF2x6R
footprint MF2x6R2
footprint MF2x6R3
pins: 1, 2, 3, 4, 5, 6, 7, 8, 9, 10, 11, 12
text: Конт.; Цепь

## MF2X8M
designator XP?, comment MF2X8MRA
MiniFit16; Value: MF2X8MRA
footprint MF2X8R1
pins: 1, 2, 3, 4, 5, 6, 7, 8, 9, 10, 11, 12, 13, 14, 15, 16
text: Конт.; Цепь

## MMCX-RA-TH
designator X?, comment MMCX-J-P-H-RA-TH1
Value: MMCX-J-P-H-RA-TH1
footprint MMCX-RA-TH
pins: 1 C, 2 C (power), 3 C (power), 4 C (power), 5 C (power)
text: Конт.; Цепь

## MW-2
designator XP?, comment MW-2M
2mm pitch B2W; Value: MW-2M
footprint MW-2M (2mm pitch board to wire)
footprint HY-2P-SMD-H (2.0mm pitch locking)
pins: 1, 2
text: Конт.; Цепь

## MW-3
designator XP?, comment MW-3M
2mm pitch B2W; Value: MW-3M
footprint MW-3M (2mm pitch board to wire)
footprint HY-3P-SMD-H (2.0mm pitch locking)
pins: 1, 2, 3
text: Конт.; Цепь

## MW-4
designator XP?, comment MW-4M
2mm pitch B2W; Value: MW-4M
footprint MW-4M (2mm pitch board to wire)
footprint HY-4P-SMD-H (2.0mm pitch locking)
pins: 1, 2, 3, 4
text: Конт.; Цепь

## MW-5
designator XP?, comment MW-5M
2mm pitch B2W; Value: MW-5M
footprint MW-5M (2mm pitch board to wire)
footprint HY-5P-SMD-H (2.0mm pitch locking)
pins: 1, 2, 3, 4, 5
text: Конт.; Цепь

## MW-6
designator XP?, comment MW-6M
2mm pitch B2W; Value: MW-6M
footprint MW-6M (2mm pitch board to wire)
footprint HY-6P-SMD-H (2.0mm pitch locking)
pins: 1, 2, 3, 4, 5, 6
text: Конт.; Цепь

## MW-7
designator XP?, comment MW-7M
2mm pitch B2W; Value: MW-7M
footprint HY-7P-SMD-H (2.0mm pitch locking)
pins: 1, 2, 3, 4, 5, 6, 7
text: Конт.; Цепь

## MW-8
designator XP?, comment HY 08P
2mm pitch B2W; Value: HY 08P
footprint HY-8P-SMD-H (2.0mm pitch locking)
pins: 1, 2, 3, 4, 5, 6, 7, 8
text: Конт.; Цепь

## MW-10
designator XP?, comment HY 10P
2mm pitch B2W; Value: HY 10P
footprint HY-10P-SMD-H (2.0mm pitch locking)
pins: 1, 2, 3, 4, 5, 6, 7, 8, 9, 10
text: Конт.; Цепь

## MW-12
designator XP?, comment HY 12P
2mm pitch B2W; Value: HY 12P
footprint HY-12P-SMD-H (2.0mm pitch locking)
pins: 1, 2, 3, 4, 5, 6, 7, 8, 9, 10, 11, 12
text: Конт.; Цепь

## PBD2-20
designator XS?
Value: PBD2-20
footprint PBD2-20
footprint PBD2-20R
pins: 1, 2, 3, 4, 5, 6, 7, 8, 9, 10, 11, 12, 13, 14, 15, 16, 17, 18, 19, 20
text: Конт.; Цепь

## PBD127-10
designator XS?, comment PBD1.27-10S
PBD127-10; Value: PBD1.27-10S
footprint PBD127-10
footprint PBD127-10LOC
pins: 1, 2, 3, 4, 5, 6, 7, 8, 9, 10
text: Конт.; Цепь

## PBD127-20
designator XS?, comment PBD1.27-20S
PBD127-20; Value: PBD1.27-20S
footprint PBD127-20
footprint PBD127-20LOC
pins: 1, 2, 3, 4, 5, 6, 7, 8, 9, 10, 11, 12, 13, 14, 15, 16, 17, 18, 19, 20
text: Конт.; Цепь

## PBD127-30
designator XS?, comment PBD1.27-30S
PBD127-30; Value: PBD1.27-30S
footprint PBD127-30
footprint PBD127-30LOC
pins: 1, 2, 3, 4, 5, 6, 7, 8, 9, 10, 11, 12, 13, 14, 15, 16, 17, 18, 19, 20, 21, 22, 23, 24, 25, 26, 27, 28, 29, 30
text: Конт.; Цепь

## PBD127-40
designator X?  value PBD1.27-40S  (hidden comment: PBD127-40)
footprint PBD127-40
footprint PBD127-40LOC
pins: 1 C, 2 C, 3 C, 4 C, 5 C, 6 C, 7 C, 8 C, 9 C, 10 C, 11 C, 12 C, 13 C, 14 C, 15 C, 16 C, 17 C, 18 C, 19 C, 20 C, 21 C, 22 C, 23 C, 24 C, 25 C, 26 C, 27 C, 28 C, 29 C, 30 C, 31 C, 32 C, 33 C, 34 C, 35 C, 36 C, 37 C, 38 C, 39 C, 40 C
text: Конт.; Цепь

## PBD127-40(2)
designator X?  value PBD1.27-40S  (hidden comment: PBD127-40(2))
footprint PBD127-40
part A pins: 1 C, 3 C, 5 C, 7 C, 9 C, 11 C, 13 C, 15 C, 17 C, 19 C, 21 C, 23 C, 25 C, 27 C, 29 C, 31 C, 33 C, 35 C, 37 C, 39 C
part B pins: 2 C, 4 C, 6 C, 8 C, 10 C, 12 C, 14 C, 16 C, 18 C, 20 C, 22 C, 24 C, 26 C, 28 C, 30 C, 32 C, 34 C, 36 C, 38 C, 40 C
part A text: Конт.; Цепь
part B text: Конт.; Цепь

## PBD-4
designator XS?, comment MM-4
PBD-4; Value: MM-4
footprint MM-4
pins: 1, 2, 3, 4
text: Конт.; Цепь

## PBD-6
designator XS?
Value: PBD-6
footprint PBD-6
footprint PBD-6R
footprint MM-6
pins: 1, 2, 3, 4, 5, 6
text: Конт.; Цепь

## PBD-8
designator XS?
Value: PBD-8
footprint PBD-8
footprint PBD-8R
footprint MM-8
pins: 1, 2, 3, 4, 5, 6, 7, 8
text: Конт.; Цепь

## PBD-10
designator XS?
Value: PBD-10
footprint PBD-10
footprint PBD-10R
footprint MM-10
pins: 1, 2, 3, 4, 5, 6, 7, 8, 9, 10
text: Конт.; Цепь

## PBD-12
designator XS?, comment MM-12
PBD-12; Value: MM-12
footprint MM-12
pins: 1, 2, 3, 4, 5, 6, 7, 8, 9, 10, 11, 12
text: Конт.; Цепь

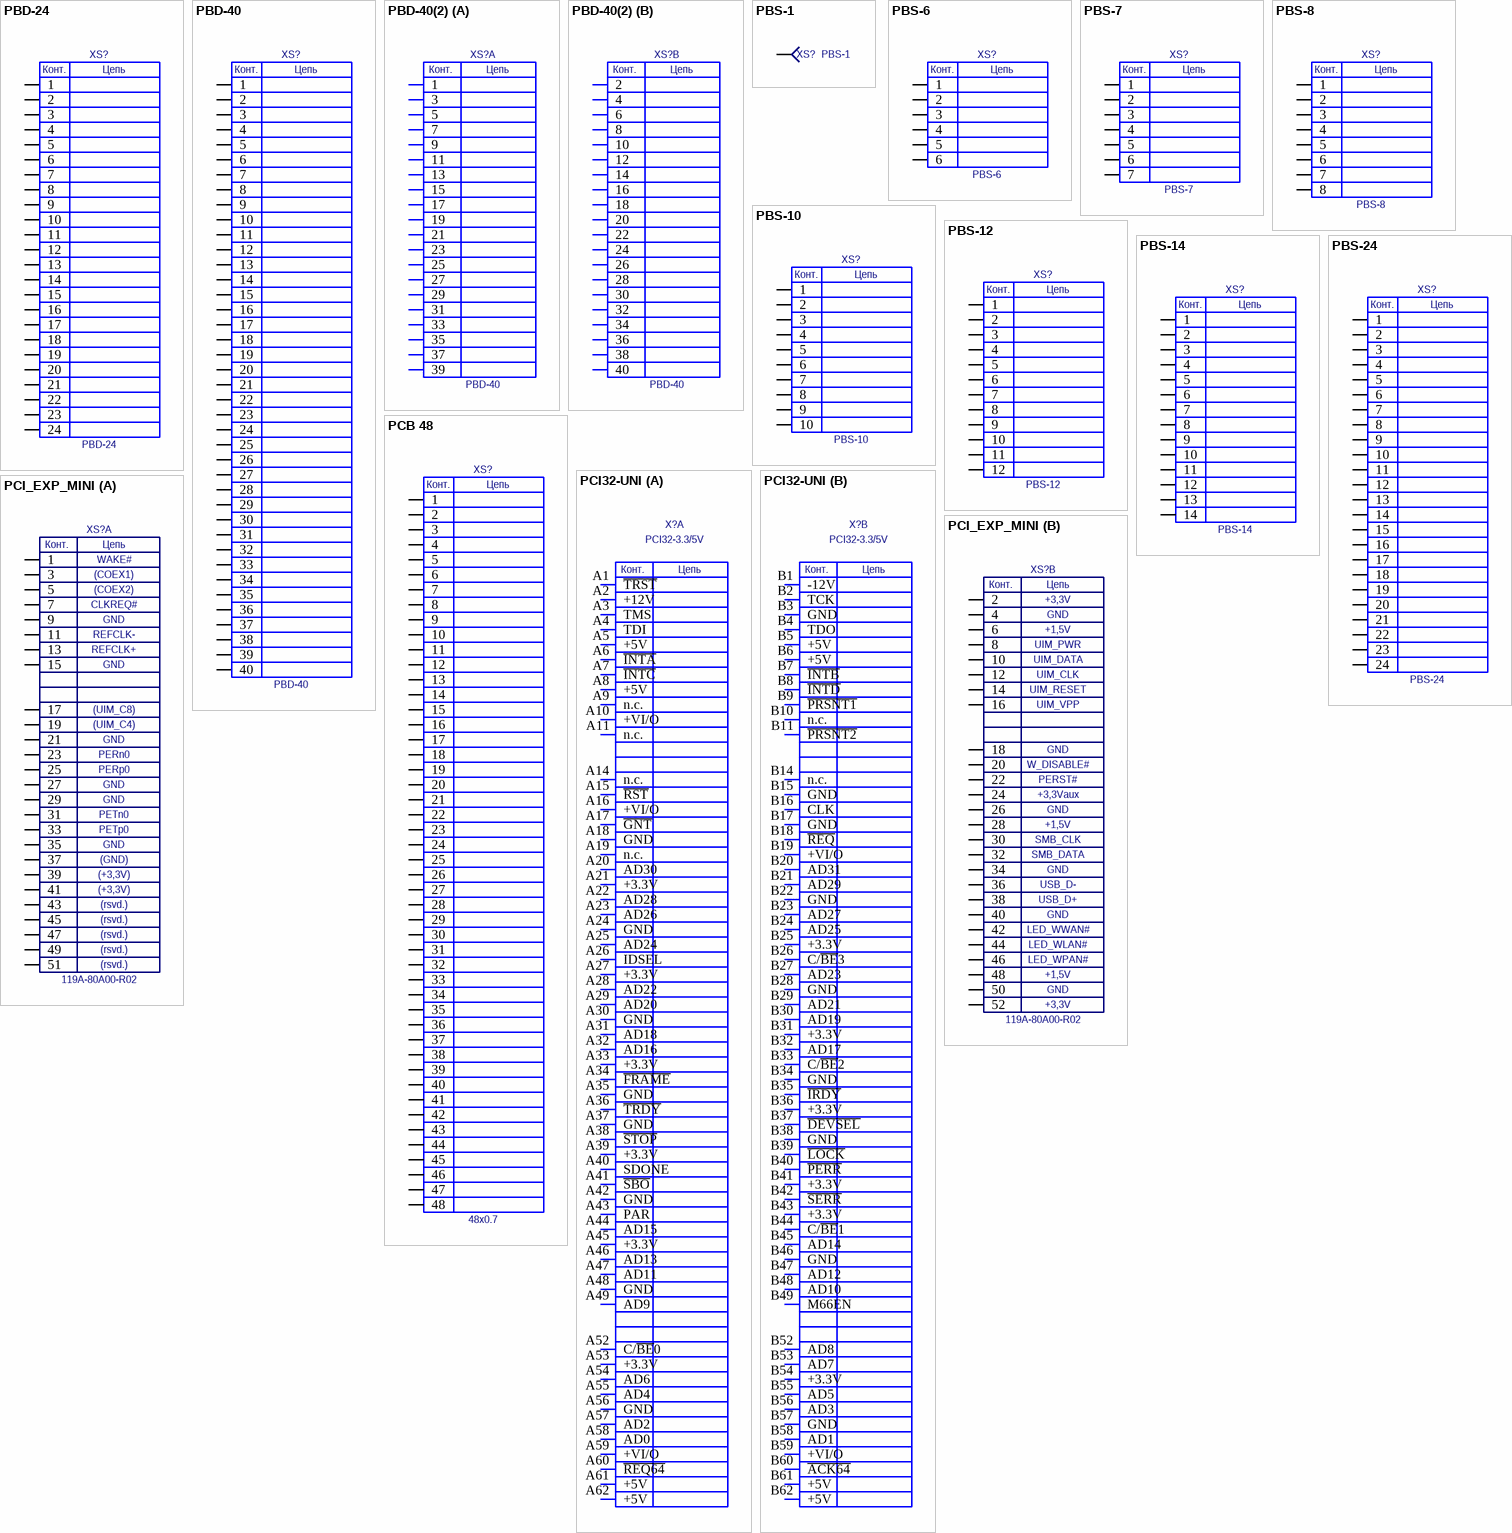
[diagram p5: symbols PBD-24 to PCI_EXP_MINI]

## PBD-24
designator XS?
Value: PBD-24
footprint PBD-24
pins: 1, 2, 3, 4, 5, 6, 7, 8, 9, 10, 11, 12, 13, 14, 15, 16, 17, 18, 19, 20, 21, 22, 23, 24
text: Конт.; Цепь

## PBD-40
designator XS?
Value: PBD-40
footprint PBD-40
pins: 1, 2, 3, 4, 5, 6, 7, 8, 9, 10, 11, 12, 13, 14, 15, 16, 17, 18, 19, 20, 21, 22, 23, 24, 25, 26, 27, 28, 29, 30, 31, 32, 33, 34, 35, 36, 37, 38, 39, 40
text: Конт.; Цепь

## PBD-40(2)
designator XS?, comment PBD-40
Value: PBD-40
footprint PBD-40
part A pins: 1, 3, 5, 7, 9, 11, 13, 15, 17, 19, 21, 23, 25, 27, 29, 31, 33, 35, 37, 39
part B pins: 2, 4, 6, 8, 10, 12, 14, 16, 18, 20, 22, 24, 26, 28, 30, 32, 34, 36, 38, 40
part A text: Конт.; Цепь
part B text: Конт.; Цепь

## PBS-1
designator XS?
Value: PBS-1
pins: 1

## PBS-6
designator XS?
2,54mm pitch; Value: PBS-6
footprint PBS-6
pins: 1, 2, 3, 4, 5, 6
text: Конт.; Цепь

## PBS-7
designator XS?
2,54mm pitch; Value: PBS-7
footprint PBS-7
pins: 1, 2, 3, 4, 5, 6, 7
text: Конт.; Цепь

## PBS-8
designator XS?
2,54mm pitch; Value: PBS-8
footprint PBS-8
pins: 1, 2, 3, 4, 5, 6, 7, 8
text: Конт.; Цепь

## PBS-10
designator XS?
2,54mm pitch; Value: PBS-10
footprint PBS-10
pins: 1, 2, 3, 4, 5, 6, 7, 8, 9, 10
text: Конт.; Цепь

## PBS-12
designator XS?
2,54mm pitch; Value: PBS-12
footprint PBS-12
pins: 1, 2, 3, 4, 5, 6, 7, 8, 9, 10, 11, 12
text: Конт.; Цепь

## PBS-14
designator XS?
2,54mm pitch; Value: PBS-14
footprint PBS-14
pins: 1, 2, 3, 4, 5, 6, 7, 8, 9, 10, 11, 12, 13, 14
text: Конт.; Цепь

## PBS-24
designator XS?
2,54mm pitch; Value: PBS-24
footprint PBS-24
footprint PLS-24R
pins: 1, 2, 3, 4, 5, 6, 7, 8, 9, 10, 11, 12, 13, 14, 15, 16, 17, 18, 19, 20, 21, 22, 23, 24
text: Конт.; Цепь

## PCB 48
designator XS?, comment 48x0.7  (no BOM)
Value: 48x0.7
footprint PCB 48x0.7
pins: 1, 2, 3, 4, 5, 6, 7, 8, 9, 10, 11, 12, 13, 14, 15, 16, 17, 18, 19, 20, 21, 22, 23, 24, 25, 26, 27, 28, 29, 30, 31, 32, 33, 34, 35, 36, 37, 38, 39, 40, 41, 42, 43, 44, 45, 46, 47, 48
text: Конт.; Цепь

## PCI32-UNI
designator X?  value PCI32-3.3/5V  (hidden comment: PCI32-UNI)
footprint PCI32-UNI_PCI32-UNI(Primary)
part A pins: A1 ~{TRST}, A2 +12V, A3 TMS, A4 TDI, A5 +5V, A6 ~{INTA}, A7 ~{INTC}, A8 +5V, A9 n.c., A10 +VI/O, A11 n.c., A14 n.c., A15 ~{RST}, A16 +VI/O, A17 ~{GNT}, A18 GND, A19 n.c., A20 AD30, A21 +3.3V, A22 AD28, A23 AD26, A24 GND, A25 AD24, A26 IDSEL, A27 +3.3V, A28 AD22, A29 AD20, A30 GND, A31 AD18, A32 AD16, A33 +3.3V, A34 ~{FRAME}, A35 GND, A36 ~{TRDY}, A37 GND, A38 ~{STOP}, A39 +3.3V, A40 SDONE, A41 ~{SBO}, A42 GND, A43 PAR, A44 AD15, A45 +3.3V, A46 AD13, A47 AD11, A48 GND, A49 AD9, A52 C/~{BE}0, A53 +3.3V, A54 AD6, A55 AD4, A56 GND, A57 AD2, A58 AD0, A59 +VI/O, A60 ~{REQ64}, A61 +5V, A62 +5V
part B pins: B1 -12V, B2 TCK, B3 GND, B4 TDO, B5 +5V, B6 +5V, B7 ~{INTB}, B8 ~{INTD}, B9 ~{PRSNT1}, B10 n.c., B11 ~{PRSNT2}, B14 n.c., B15 GND, B16 CLK, B17 GND, B18 ~{REQ}, B19 +VI/O, B20 AD31, B21 AD29, B22 GND, B23 AD27, B24 AD25, B25 +3.3V, B26 C/~{BE}3, B27 AD23, B28 GND, B29 AD21, B30 AD19, B31 +3.3V, B32 AD17, B33 C/~{BE}2, B34 GND, B35 ~{IRDY}, B36 +3.3V, B37 ~{DEVSEL}, B38 GND, B39 ~{LOCK}, B40 ~{PERR}, B41 +3.3V, B42 ~{SERR}, B43 +3.3V, B44 C/~{BE}1, B45 AD14, B46 GND, B47 AD12, B48 AD10, B49 M66EN, B52 AD8, B53 AD7, B54 +3.3V, B55 AD5, B56 AD3, B57 GND, B58 AD1, B59 +VI/O, B60 ~{ACK64}, B61 +5V, B62 +5V
part A text: Конт.; Цепь
part B text: Конт.; Цепь

## PCI_EXP_MINI
designator XS?, comment 119A-80A00-R02
PCI_EXP_MINI; Value: 119A-80A00-R02
footprint PCI_EXPR_MINI_8
footprint PCI_EXPR_MINI_4
part A pins: 1, 3, 5, 7, 9, 11, 13, 15, 17, 19, 21, 23, 25, 27, 29, 31, 33, 35, 37, 39, 41, 43, 45, 47, 49, 51
part B pins: 2, 4, 6, 8, 10, 12, 14, 16, 18, 20, 22, 24, 26, 28, 30, 32, 34, 36, 38, 40, 42, 44, 46, 48, 50, 52
part A text: Конт.; Цепь; WAKE#; (COEX1); (COEX2); CLKREQ#; GND; REFCLK-; REFCLK+; (UIM_C8); (UIM_C4); PERn0; PERp0; PETn0; PETp0; (GND); (+3,3V); (rsvd.)
part B text: Конт.; Цепь; +3,3V; GND; +1,5V; UIM_PWR; UIM_DATA; UIM_CLK; UIM_RESET; UIM_VPP; W_DISABLE#; PERST#; +3,3Vaux; SMB_CLK; SMB_DATA; USB_D-; USB_D+; LED_WWAN#; LED_WLAN#; LED_WPAN#

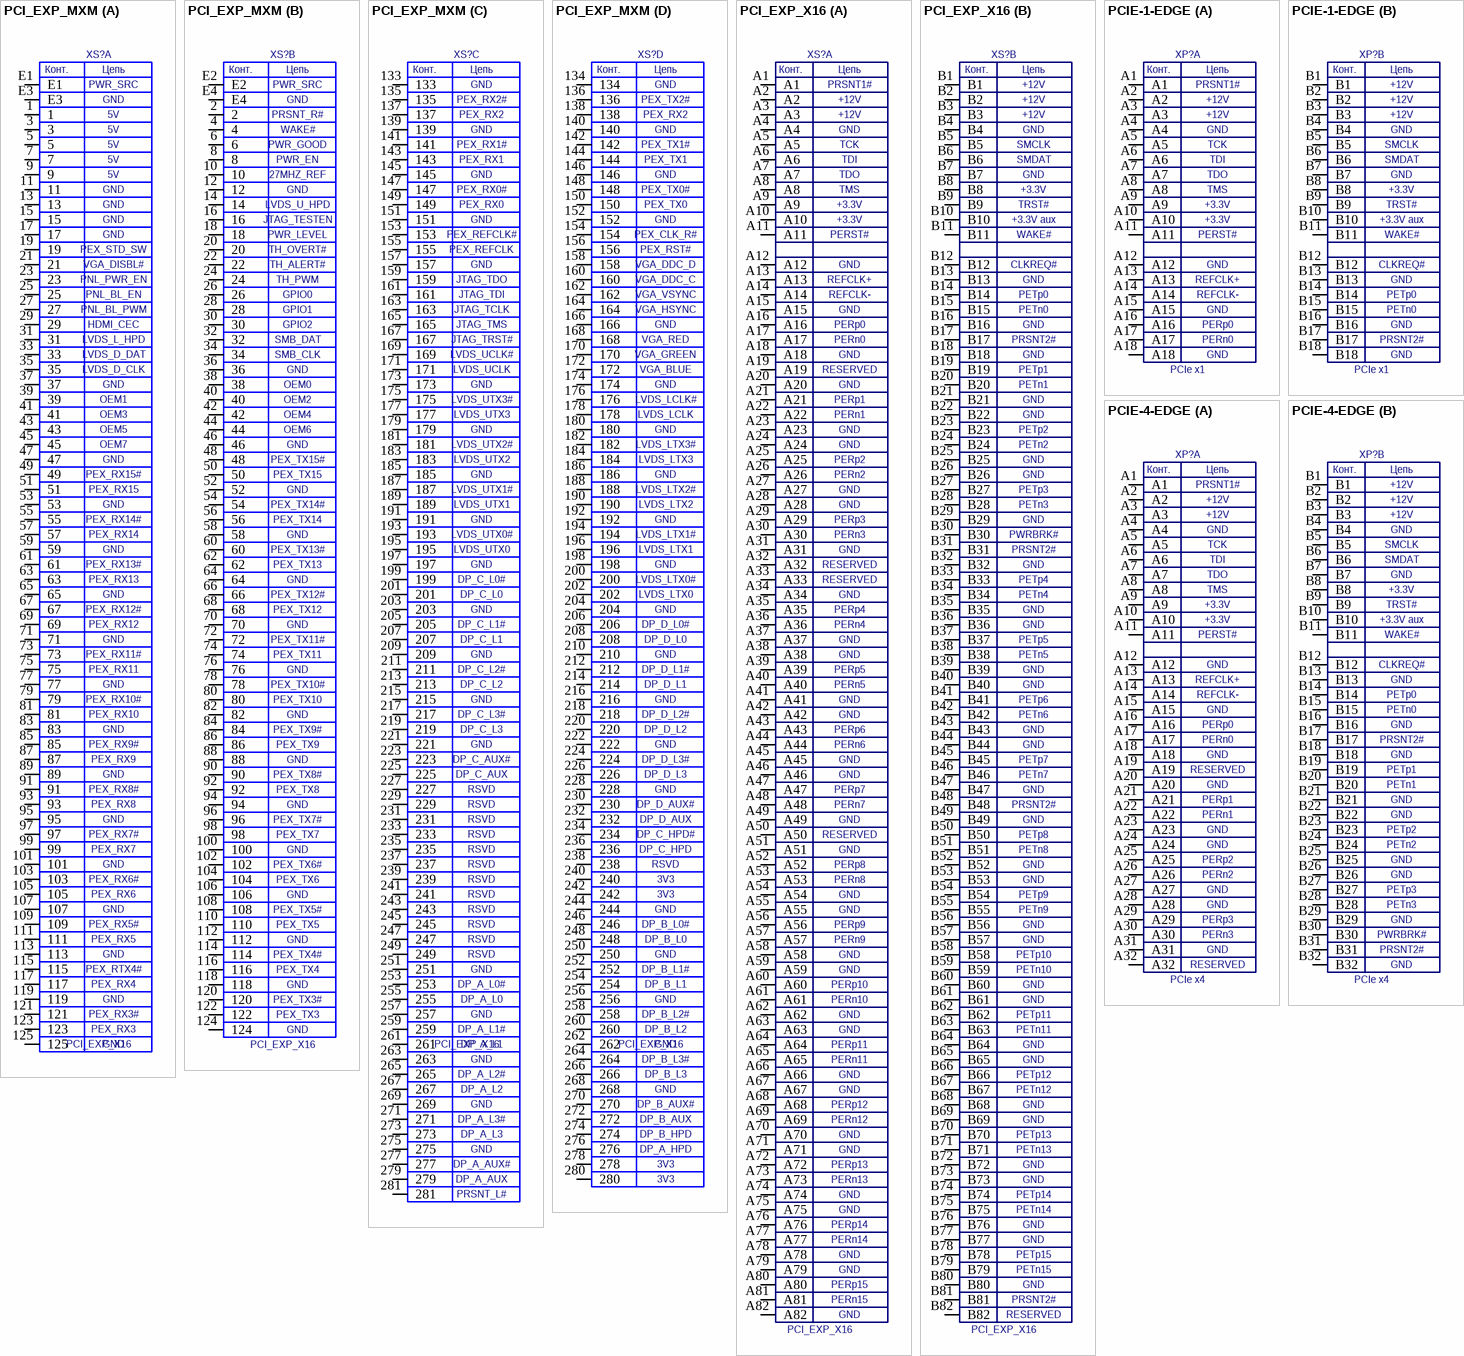
[diagram p6: symbols PCI_EXP_MXM to PCIE-4-EDGE]

## PCI_EXP_MXM
designator XS?, comment PCI_EXP_X16
PCI_EXP_MXM; Value: PCI_EXP_X16
footprint PCI_EXPR_MXM
part A pins: 1, 3, 5, 7, 9, 11, 13, 15, 17, 19, 21, 23, 25, 27, 29, 31, 33, 35, 37, 39, 41, 43, 45, 47, 49, 51, 53, 55, 57, 59, 61, 63, 65, 67, 69, 71, 73, 75, 77, 79, 81, 83, 85, 87, 89, 91, 93, 95, 97, 99, 101, 103, 105, 107, 109, 111, 113, 115, 117, 119, 121, 123, 125, E1, E3
part B pins: 2, 4, 6, 8, 10, 12, 14, 16, 18, 20, 22, 24, 26, 28, 30, 32, 34, 36, 38, 40, 42, 44, 46, 48, 50, 52, 54, 56, 58, 60, 62, 64, 66, 68, 70, 72, 74, 76, 78, 80, 82, 84, 86, 88, 90, 92, 94, 96, 98, 100, 102, 104, 106, 108, 110, 112, 114, 116, 118, 120, 122, 124, E2, E4
part C pins: 133, 135, 137, 139, 141, 143, 145, 147, 149, 151, 153, 155, 157, 159, 161, 163, 165, 167, 169, 171, 173, 175, 177, 179, 181, 183, 185, 187, 189, 191, 193, 195, 197, 199, 201, 203, 205, 207, 209, 211, 213, 215, 217, 219, 221, 223, 225, 227, 229, 231, 233, 235, 237, 239, 241, 243, 245, 247, 249, 251, 253, 255, 257, 259, 261, 263, 265, 267, 269, 271, 273, 275, 277, 279, 281
part D pins: 134, 136, 138, 140, 142, 144, 146, 148, 150, 152, 154, 156, 158, 160, 162, 164, 166, 168, 170, 172, 174, 176, 178, 180, 182, 184, 186, 188, 190, 192, 194, 196, 198, 200, 202, 204, 206, 208, 210, 212, 214, 216, 218, 220, 222, 224, 226, 228, 230, 232, 234, 236, 238, 240, 242, 244, 246, 248, 250, 252, 254, 256, 258, 260, 262, 264, 266, 268, 270, 272, 274, 276, 278, 280
part A text: Конт.; Цепь; PWR_SRC; GND; 5V; PEX_STD_SW; VGA_DISBL#; PNL_PWR_EN; PNL_BL_EN; PNL_BL_PWM; HDMI_CEC; LVDS_L_HPD; LVDS_D_DAT; LVDS_D_CLK; OEM1; OEM3; OEM5; OEM7; PEX_RX15#; PEX_RX15; PEX_RX14#; PEX_RX14; PEX_RX13#; PEX_RX13; PEX_RX12#; PEX_RX12; PEX_RX11#; PEX_RX11; PEX_RX10#; PEX_RX10; PEX_RX9#; PEX_RX9; PEX_RX8#; PEX_RX8; PEX_RX7#; PEX_RX7; PEX_RX6#; PEX_RX6; PEX_RX5#; PEX_RX5; PEX_RTX4#; PEX_RX4; PEX_RX3#; PEX_RX3
part B text: Конт.; Цепь; PWR_SRC; GND; PRSNT_R#; WAKE#; PWR_GOOD; PWR_EN; 27MHZ_REF; LVDS_U_HPD; JTAG_TESTEN; PWR_LEVEL; TH_OVERT#; TH_ALERT#; TH_PWM; GPIO0; GPIO1; GPIO2; SMB_DAT; SMB_CLK; OEM0; OEM2; OEM4; OEM6; PEX_TX15#; PEX_TX15; PEX_TX14#; PEX_TX14; PEX_TX13#; PEX_TX13; PEX_TX12#; PEX_TX12; PEX_TX11#; PEX_TX11; PEX_TX10#; PEX_TX10; PEX_TX9#; PEX_TX9; PEX_TX8#; PEX_TX8; PEX_TX7#; PEX_TX7; PEX_TX6#; PEX_TX6; PEX_TX5#; PEX_TX5; PEX_TX4#; PEX_TX4; PEX_TX3#; PEX_TX3
part C text: Конт.; Цепь; GND; PEX_RX2#; PEX_RX2; PEX_RX1#; PEX_RX1; PEX_RX0#; PEX_RX0; PEX_REFCLK#; PEX_REFCLK; JTAG_TDO; JTAG_TDI; JTAG_TCLK; JTAG_TMS; JTAG_TRST#; LVDS_UCLK#; LVDS_UCLK; LVDS_UTX3#; LVDS_UTX3; LVDS_UTX2#; LVDS_UTX2; LVDS_UTX1#; LVDS_UTX1; LVDS_UTX0#; LVDS_UTX0; DP_C_L0#; DP_C_L0; DP_C_L1#; DP_C_L1; DP_C_L2#; DP_C_L2; DP_C_L3#; DP_C_L3; DP_C_AUX#; DP_C_AUX; RSVD; DP_A_L0#; DP_A_L0; DP_A_L1#; DP_A_L1; DP_A_L2#; DP_A_L2; DP_A_L3#; DP_A_L3; DP_A_AUX#; DP_A_AUX; PRSNT_L#
part D text: Конт.; Цепь; GND; PEX_TX2#; PEX_RX2; PEX_TX1#; PEX_TX1; PEX_TX0#; PEX_TX0; PEX_CLK_R#; PEX_RST#; VGA_DDC_D; VGA_DDC_C; VGA_VSYNC; VGA_HSYNC; VGA_RED; VGA_GREEN; VGA_BLUE; LVDS_LCLK#; LVDS_LCLK; LVDS_LTX3#; LVDS_LTX3; LVDS_LTX2#; LVDS_LTX2; LVDS_LTX1#; LVDS_LTX1; LVDS_LTX0#; LVDS_LTX0; DP_D_L0#; DP_D_L0; DP_D_L1#; DP_D_L1; DP_D_L2#; DP_D_L2; DP_D_L3#; DP_D_L3; DP_D_AUX#; DP_D_AUX; DP_C_HPD#; DP_C_HPD; RSVD; 3V3; DP_B_L0#; DP_B_L0; DP_B_L1#; DP_B_L1; DP_B_L2#; DP_B_L2; DP_B_L3#; DP_B_L3; DP_B_AUX#; DP_B_AUX; DP_B_HPD; DP_A_HPD

## PCI_EXP_X16
designator XS?
Value: PCI_EXP_X16
footprint PCI_EXPR_164
part A pins: A1, A2, A3, A4, A5, A6, A7, A8, A9, A10, A11, A12, A13, A14, A15, A16, A17, A18, A19, A20, A21, A22, A23, A24, A25, A26, A27, A28, A29, A30, A31, A32, A33, A34, A35, A36, A37, A38, A39, A40, A41, A42, A43, A44, A45, A46, A47, A48, A49, A50, A51, A52, A53, A54, A55, A56, A57, A58, A59, A60, A61, A62, A63, A64, A65, A66, A67, A68, A69, A70, A71, A72, A73, A74, A75, A76, A77, A78, A79, A80, A81, A82
part B pins: B1, B2, B3, B4, B5, B6, B7, B8, B9, B10, B11, B12, B13, B14, B15, B16, B17, B18, B19, B20, B21, B22, B23, B24, B25, B26, B27, B28, B29, B30, B31, B32, B33, B34, B35, B36, B37, B38, B39, B40, B41, B42, B43, B44, B45, B46, B47, B48, B49, B50, B51, B52, B53, B54, B55, B56, B57, B58, B59, B60, B61, B62, B63, B64, B65, B66, B67, B68, B69, B70, B71, B72, B73, B74, B75, B76, B77, B78, B79, B80, B81, B82
part A text: Конт.; Цепь; PRSNT1#; +12V; GND; TCK; TDI; TDO; TMS; +3.3V; PERST#; REFCLK+; REFCLK-; PERp0; PERn0; RESERVED; PERp1; PERn1; PERp2; PERn2; PERp3; PERn3; PERp4; PERn4; PERp5; PERn5; PERp6; PERn6; PERp7; PERn7; PERp8; PERn8; PERp9; PERn9; PERp10; PERn10; PERp11; PERn11; PERp12; PERn12; PERp13; PERn13; PERp14; PERn14; PERp15; PERn15
part B text: Конт.; Цепь; +12V; GND; SMCLK; SMDAT; +3.3V; TRST#; +3.3V aux; WAKE#; CLKREQ#; PETp0; PETn0; PRSNT2#; PETp1; PETn1; PETp2; PETn2; PETp3; PETn3; PWRBRK#; PETp4; PETn4; PETp5; PETn5; PETp6; PETn6; PETp7; PETn7; PETp8; PETn8; PETp9; PETn9; PETp10; PETn10; PETp11; PETn11; PETp12; PETn12; PETp13; PETn13; PETp14; PETn14; PETp15; PETn15; RESERVED

## PCIE-1-EDGE
designator XP?, comment PCIe x1  (no BOM)
PCIe edge connector; Value: PCIe x1
footprint PCIE-1-PCB
part A pins: A1, A2, A3, A4, A5, A6, A7, A8, A9, A10, A11, A12, A13, A14, A15, A16, A17, A18
part B pins: B1, B2, B3, B4, B5, B6, B7, B8, B9, B10, B11, B12, B13, B14, B15, B16, B17, B18
part A text: Конт.; Цепь; PRSNT1#; +12V; GND; TCK; TDI; TDO; TMS; +3.3V; PERST#; REFCLK+; REFCLK-; PERp0; PERn0
part B text: Конт.; Цепь; +12V; GND; SMCLK; SMDAT; +3.3V; TRST#; +3.3V aux; WAKE#; CLKREQ#; PETp0; PETn0; PRSNT2#

## PCIE-4-EDGE
designator XP?, comment PCIe x4  (no BOM)
PCIe edge connector; Value: PCIe x4
footprint PCIE-4-PCB
part A pins: A1, A2, A3, A4, A5, A6, A7, A8, A9, A10, A11, A12, A13, A14, A15, A16, A17, A18, A19, A20, A21, A22, A23, A24, A25, A26, A27, A28, A29, A30, A31, A32
part B pins: B1, B2, B3, B4, B5, B6, B7, B8, B9, B10, B11, B12, B13, B14, B15, B16, B17, B18, B19, B20, B21, B22, B23, B24, B25, B26, B27, B28, B29, B30, B31, B32
part A text: Конт.; Цепь; PRSNT1#; +12V; GND; TCK; TDI; TDO; TMS; +3.3V; PERST#; REFCLK+; REFCLK-; PERp0; PERn0; RESERVED; PERp1; PERn1; PERp2; PERn2; PERp3; PERn3
part B text: Конт.; Цепь; +12V; GND; SMCLK; SMDAT; +3.3V; TRST#; +3.3V aux; WAKE#; CLKREQ#; PETp0; PETn0; PRSNT2#; PETp1; PETn1; PETp2; PETn2; PETp3; PETn3; PWRBRK#

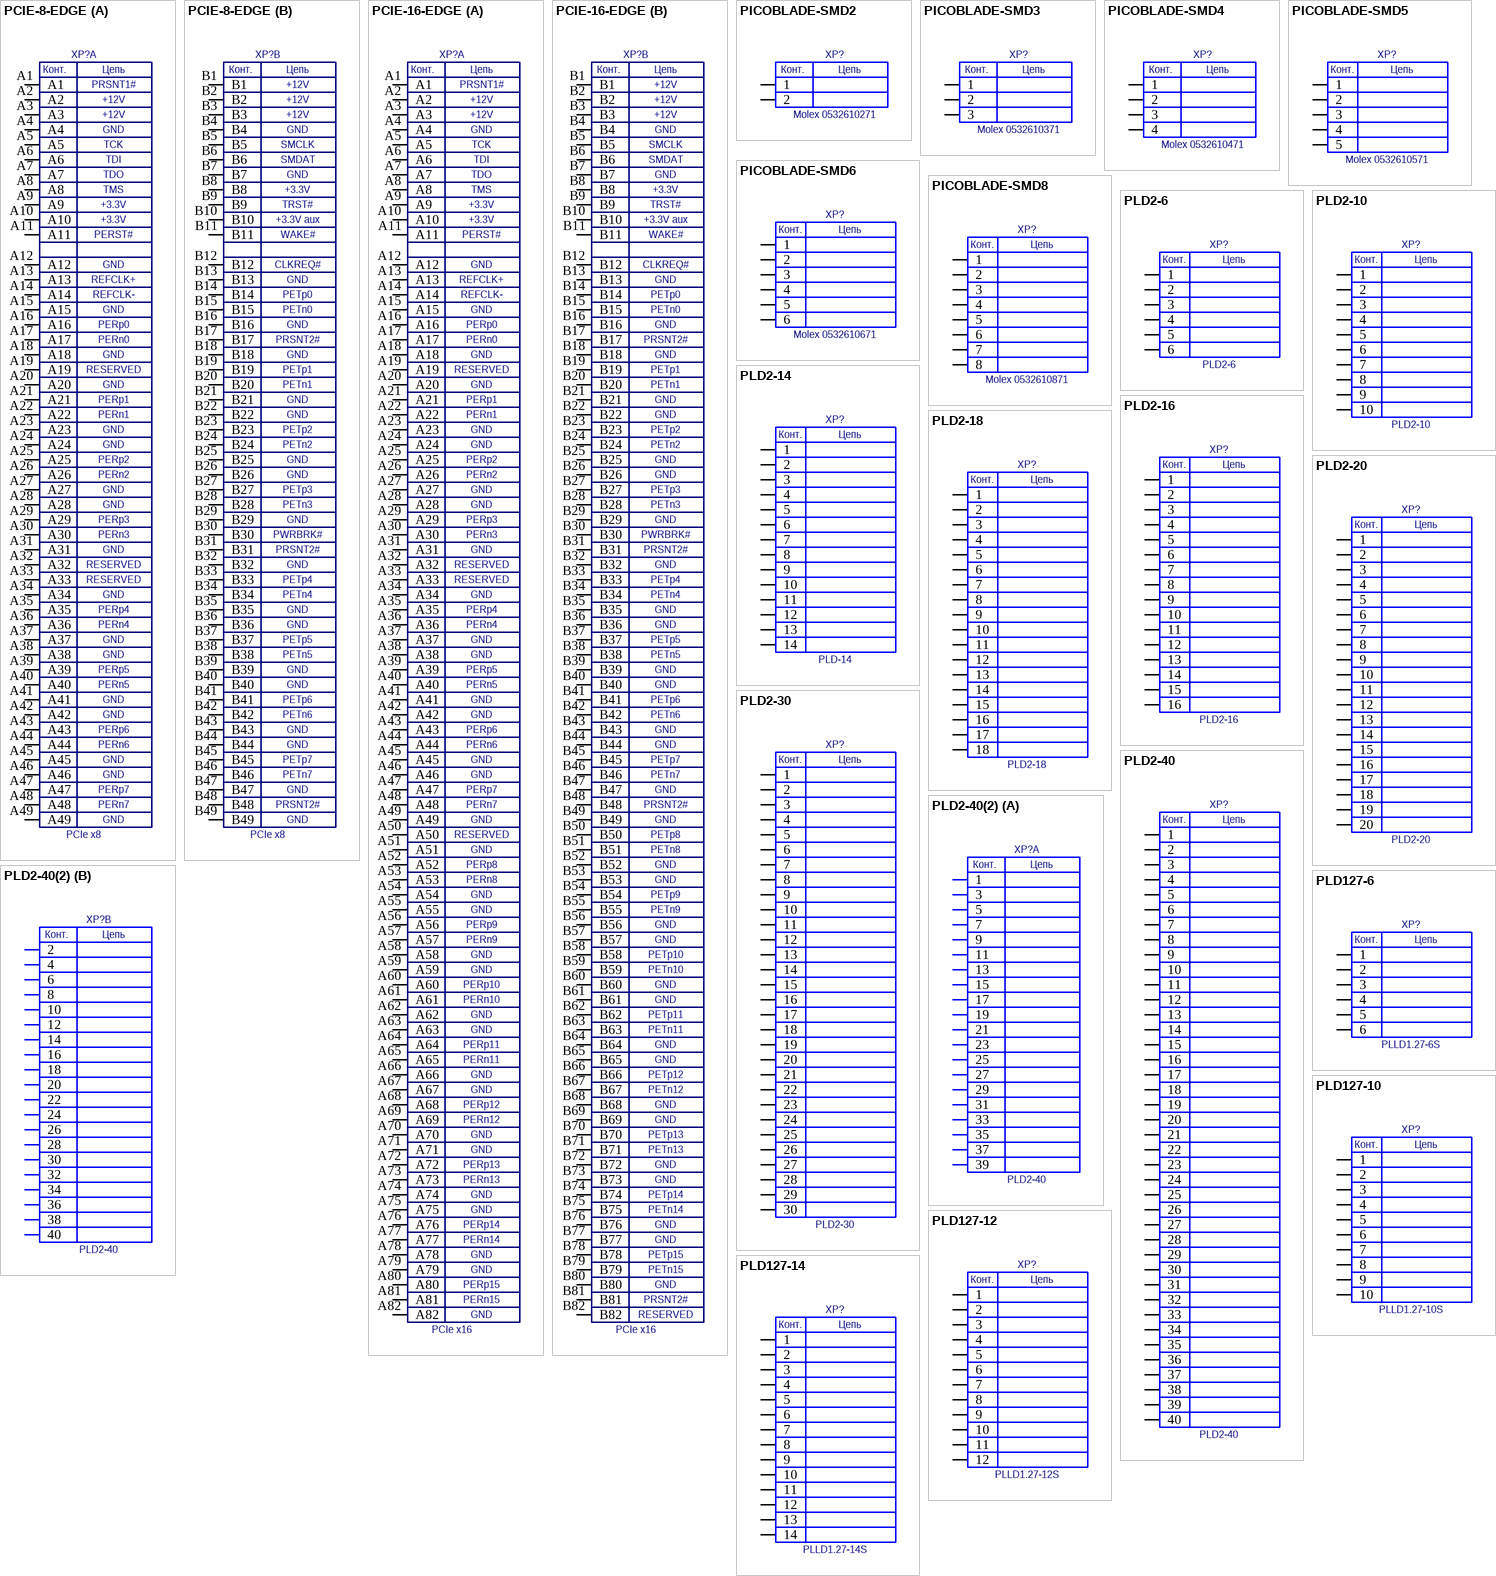
[diagram p7: symbols PCIE-8-EDGE to PLD127-14]

## PCIE-8-EDGE
designator XP?, comment PCIe x8  (no BOM)
PCIe edge connector; Value: PCIe x8
footprint PCIE-8-PCB
part A pins: A1, A2, A3, A4, A5, A6, A7, A8, A9, A10, A11, A12, A13, A14, A15, A16, A17, A18, A19, A20, A21, A22, A23, A24, A25, A26, A27, A28, A29, A30, A31, A32, A33, A34, A35, A36, A37, A38, A39, A40, A41, A42, A43, A44, A45, A46, A47, A48, A49
part B pins: B1, B2, B3, B4, B5, B6, B7, B8, B9, B10, B11, B12, B13, B14, B15, B16, B17, B18, B19, B20, B21, B22, B23, B24, B25, B26, B27, B28, B29, B30, B31, B32, B33, B34, B35, B36, B37, B38, B39, B40, B41, B42, B43, B44, B45, B46, B47, B48, B49
part A text: Конт.; Цепь; PRSNT1#; +12V; GND; TCK; TDI; TDO; TMS; +3.3V; PERST#; REFCLK+; REFCLK-; PERp0; PERn0; RESERVED; PERp1; PERn1; PERp2; PERn2; PERp3; PERn3; PERp4; PERn4; PERp5; PERn5; PERp6; PERn6; PERp7; PERn7
part B text: Конт.; Цепь; +12V; GND; SMCLK; SMDAT; +3.3V; TRST#; +3.3V aux; WAKE#; CLKREQ#; PETp0; PETn0; PRSNT2#; PETp1; PETn1; PETp2; PETn2; PETp3; PETn3; PWRBRK#; PETp4; PETn4; PETp5; PETn5; PETp6; PETn6; PETp7; PETn7

## PCIE-16-EDGE
designator XP?, comment PCIe x16  (no BOM)
PCIe edge connector; Value: PCIe x16
footprint PCIE-16-PCB
part A pins: A1, A2, A3, A4, A5, A6, A7, A8, A9, A10, A11, A12, A13, A14, A15, A16, A17, A18, A19, A20, A21, A22, A23, A24, A25, A26, A27, A28, A29, A30, A31, A32, A33, A34, A35, A36, A37, A38, A39, A40, A41, A42, A43, A44, A45, A46, A47, A48, A49, A50, A51, A52, A53, A54, A55, A56, A57, A58, A59, A60, A61, A62, A63, A64, A65, A66, A67, A68, A69, A70, A71, A72, A73, A74, A75, A76, A77, A78, A79, A80, A81, A82
part B pins: B1, B2, B3, B4, B5, B6, B7, B8, B9, B10, B11, B12, B13, B14, B15, B16, B17, B18, B19, B20, B21, B22, B23, B24, B25, B26, B27, B28, B29, B30, B31, B32, B33, B34, B35, B36, B37, B38, B39, B40, B41, B42, B43, B44, B45, B46, B47, B48, B49, B50, B51, B52, B53, B54, B55, B56, B57, B58, B59, B60, B61, B62, B63, B64, B65, B66, B67, B68, B69, B70, B71, B72, B73, B74, B75, B76, B77, B78, B79, B80, B81, B82
part A text: Конт.; Цепь; PRSNT1#; +12V; GND; TCK; TDI; TDO; TMS; +3.3V; PERST#; REFCLK+; REFCLK-; PERp0; PERn0; RESERVED; PERp1; PERn1; PERp2; PERn2; PERp3; PERn3; PERp4; PERn4; PERp5; PERn5; PERp6; PERn6; PERp7; PERn7; PERp8; PERn8; PERp9; PERn9; PERp10; PERn10; PERp11; PERn11; PERp12; PERn12; PERp13; PERn13; PERp14; PERn14; PERp15; PERn15
part B text: Конт.; Цепь; +12V; GND; SMCLK; SMDAT; +3.3V; TRST#; +3.3V aux; WAKE#; CLKREQ#; PETp0; PETn0; PRSNT2#; PETp1; PETn1; PETp2; PETn2; PETp3; PETn3; PWRBRK#; PETp4; PETn4; PETp5; PETn5; PETp6; PETn6; PETp7; PETn7; PETp8; PETn8; PETp9; PETn9; PETp10; PETn10; PETp11; PETn11; PETp12; PETn12; PETp13; PETn13; PETp14; PETn14; PETp15; PETn15; RESERVED

## PICOBLADE-SMD2
designator XP?, comment Molex 0532610271
PICOBLADE-SMD2; Value: Molex 0532610271
footprint PICOBLADE-SMD2
footprint PICOBLADE-SMD2-3D
footprint PICOBLADE-SMD2V (Footprint not found)
pins: 1, 2
text: Конт.; Цепь

## PICOBLADE-SMD3
designator XP?, comment Molex 0532610371
PICOBLADE-SMD3; Value: Molex 0532610371
footprint PICOBLADE-SMD3
footprint PICOBLADE-SMD3-3D
footprint PICOBLADE-SMD3V
pins: 1, 2, 3
text: Конт.; Цепь

## PICOBLADE-SMD4
designator XP?, comment Molex 0532610471
PICOBLADE-SMD4; Value: Molex 0532610471
footprint PICOBLADE-SMD4
footprint PICOBLADE-SMD4-3D
footprint PICOBLADE-SMD4V
pins: 1, 2, 3, 4
text: Конт.; Цепь

## PICOBLADE-SMD5
designator XP?, comment Molex 0532610571
PICOBLADE-SMD5; Value: Molex 0532610571
footprint PICOBLADE-SMD5
pins: 1, 2, 3, 4, 5
text: Конт.; Цепь

## PICOBLADE-SMD6
designator XP?, comment Molex 0532610671
PICOBLADE-SMD6; Value: Molex 0532610671
footprint PICOBLADE-SMD6
footprint PICOBLADE-SMD6V
pins: 1, 2, 3, 4, 5, 6
text: Конт.; Цепь

## PICOBLADE-SMD8
designator XP?, comment Molex 0532610871
PICOBLADE-SMD6; Value: Molex 0532610871
footprint PICOBLADE-SMD8
footprint PICOBLADE-SMD8V
pins: 1, 2, 3, 4, 5, 6, 7, 8
text: Конт.; Цепь

## PLD2-6
designator XP?
Value: PLD2-6
footprint PHB-6A
footprint PLD2-6
pins: 1, 2, 3, 4, 5, 6
text: Конт.; Цепь

## PLD2-10
designator XP?
Value: PLD2-10
footprint PLD2-10
pins: 1, 2, 3, 4, 5, 6, 7, 8, 9, 10
text: Конт.; Цепь

## PLD2-14
designator XP?, comment PLD-14
PLD2-14; Value: PLD-14
footprint PLD2-14
footprint BH2-14
pins: 1, 2, 3, 4, 5, 6, 7, 8, 9, 10, 11, 12, 13, 14
text: Конт.; Цепь

## PLD2-16
designator XP?
Value: PLD2-16
footprint PLD2-16
pins: 1, 2, 3, 4, 5, 6, 7, 8, 9, 10, 11, 12, 13, 14, 15, 16
text: Конт.; Цепь

## PLD2-18
designator XP?
Value: PLD2-18
footprint PLD2-18
footprint PHB-18A
pins: 1, 2, 3, 4, 5, 6, 7, 8, 9, 10, 11, 12, 13, 14, 15, 16, 17, 18
text: Конт.; Цепь

## PLD2-20
designator XP?
Value: PLD2-20
footprint PLD2-20
footprint PLD2-20R
footprint BH2-20
pins: 1, 2, 3, 4, 5, 6, 7, 8, 9, 10, 11, 12, 13, 14, 15, 16, 17, 18, 19, 20
text: Конт.; Цепь

## PLD2-30
designator XP?
Value: PLD2-30
footprint PLD2-30
footprint PLD2-30R
pins: 1, 2, 3, 4, 5, 6, 7, 8, 9, 10, 11, 12, 13, 14, 15, 16, 17, 18, 19, 20, 21, 22, 23, 24, 25, 26, 27, 28, 29, 30
text: Конт.; Цепь

## PLD2-40
designator XP?
Value: PLD2-40
footprint PLD2-40
pins: 1, 2, 3, 4, 5, 6, 7, 8, 9, 10, 11, 12, 13, 14, 15, 16, 17, 18, 19, 20, 21, 22, 23, 24, 25, 26, 27, 28, 29, 30, 31, 32, 33, 34, 35, 36, 37, 38, 39, 40
text: Конт.; Цепь

## PLD2-40(2)
designator XP?, comment PLD2-40
PLD2-40(2); Value: PLD2-40
footprint PLD2-40
part A pins: 1, 3, 5, 7, 9, 11, 13, 15, 17, 19, 21, 23, 25, 27, 29, 31, 33, 35, 37, 39
part B pins: 2, 4, 6, 8, 10, 12, 14, 16, 18, 20, 22, 24, 26, 28, 30, 32, 34, 36, 38, 40
part A text: Конт.; Цепь
part B text: Конт.; Цепь

## PLD127-6
designator XP?, comment PLLD1.27-6S
1.27 pitch dual raw; Value: PLLD1.27-6S
footprint PLLD127-6S
pins: 1, 2, 3, 4, 5, 6
text: Конт.; Цепь

## PLD127-10
designator XP?, comment PLLD1.27-10S
PLD127-10; Value: PLLD1.27-10S
footprint PLLD127-10S
pins: 1, 2, 3, 4, 5, 6, 7, 8, 9, 10
text: Конт.; Цепь

## PLD127-12
designator XP?, comment PLLD1.27-12S
PLD127-12; Value: PLLD1.27-12S
footprint PLLD127-12S
pins: 1, 2, 3, 4, 5, 6, 7, 8, 9, 10, 11, 12
text: Конт.; Цепь

## PLD127-14
designator XP?, comment PLLD1.27-14S
PLD127-14; Value: PLLD1.27-14S
footprint PLLD127-14S
pins: 1, 2, 3, 4, 5, 6, 7, 8, 9, 10, 11, 12, 13, 14
text: Конт.; Цепь

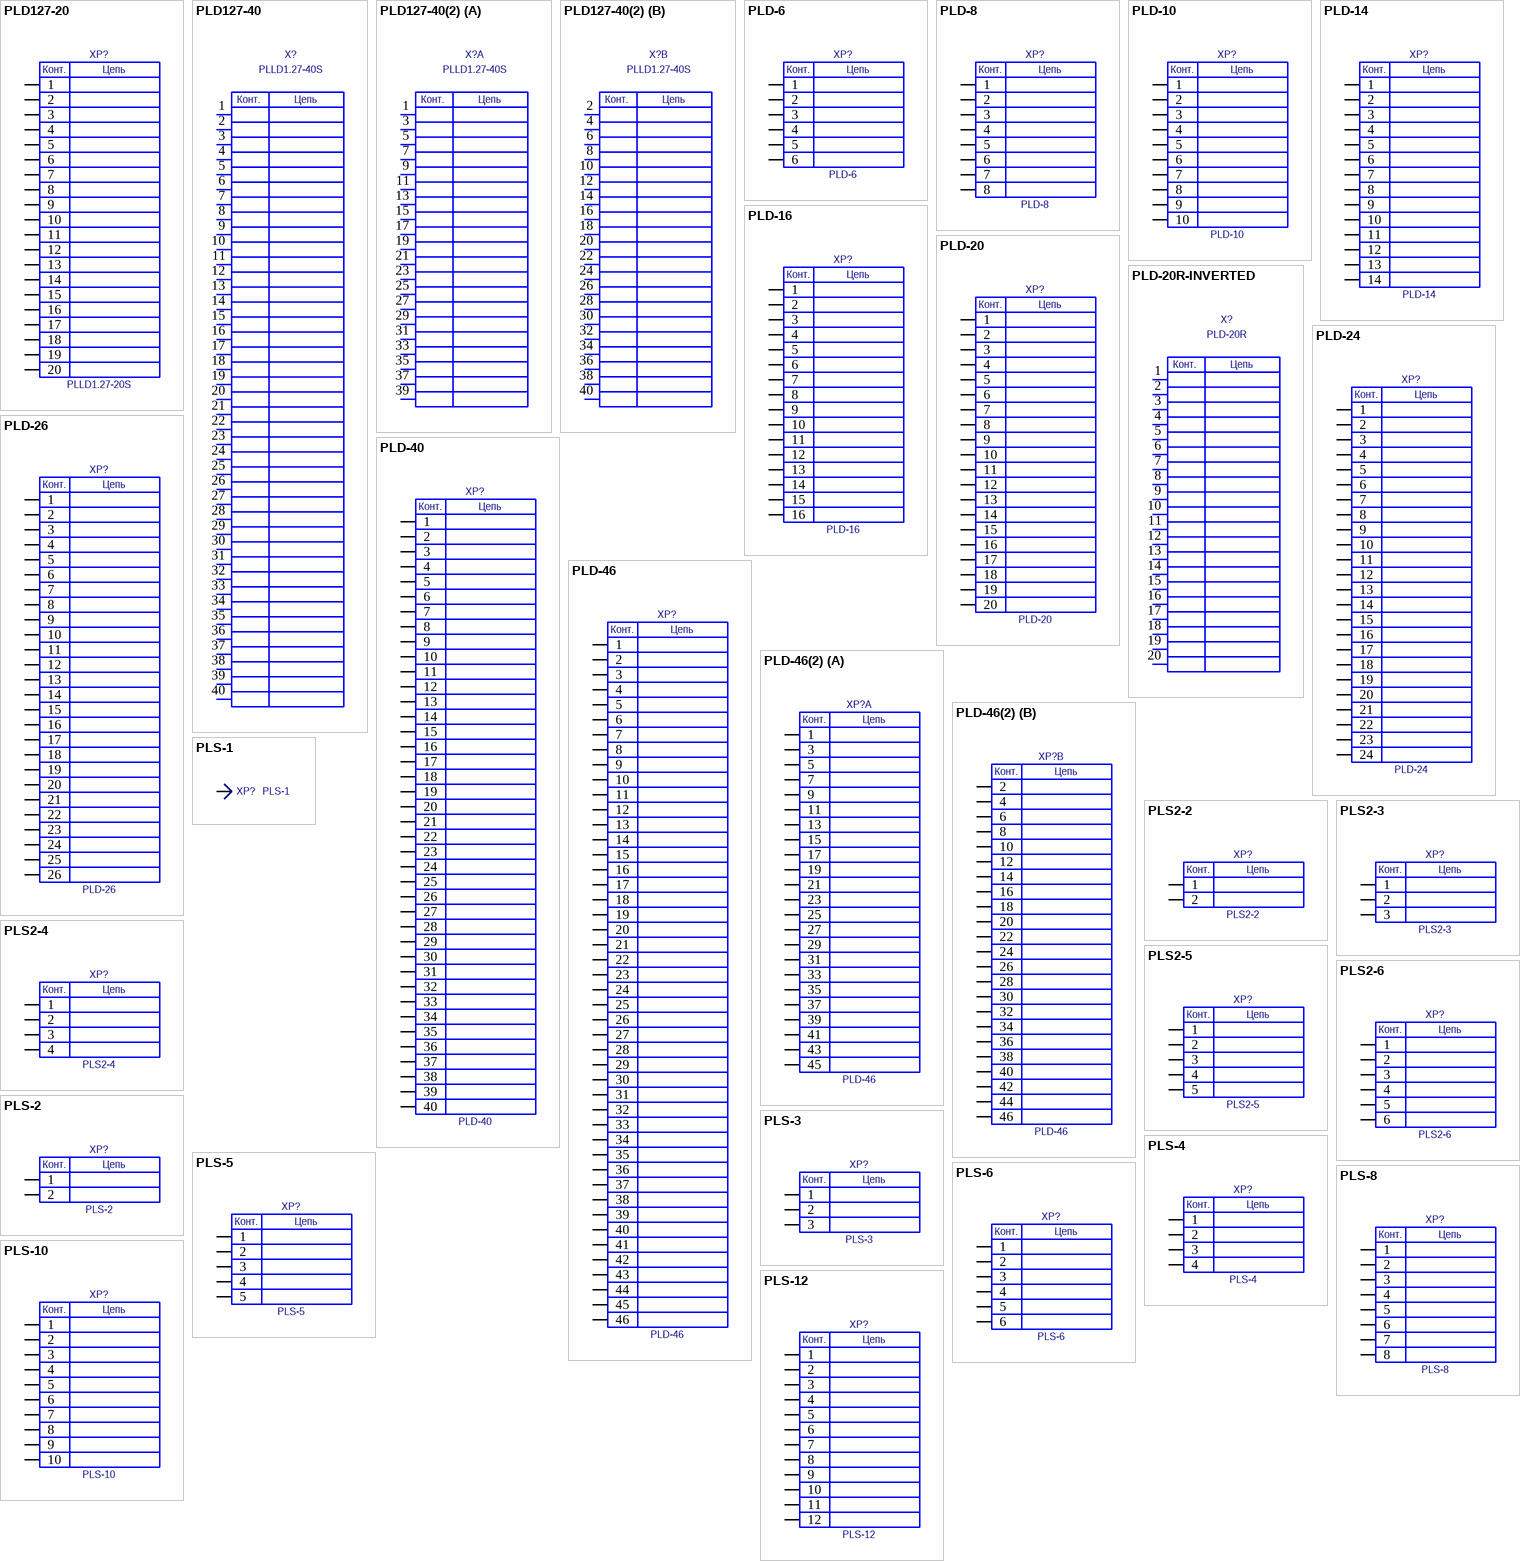
[diagram p8: symbols PLD127-20 to PLS-12]

## PLD127-20
designator XP?, comment PLLD1.27-20S
PLD127-20; Value: PLLD1.27-20S
footprint PLLD127-20S
pins: 1, 2, 3, 4, 5, 6, 7, 8, 9, 10, 11, 12, 13, 14, 15, 16, 17, 18, 19, 20
text: Конт.; Цепь

## PLD127-40
designator X?  value PLLD1.27-40S  (hidden comment: PLD127-40)
footprint PLLD127-40S
pins: 1 C, 2 C, 3 C, 4 C, 5 C, 6 C, 7 C, 8 C, 9 C, 10 C, 11 C, 12 C, 13 C, 14 C, 15 C, 16 C, 17 C, 18 C, 19 C, 20 C, 21 C, 22 C, 23 C, 24 C, 25 C, 26 C, 27 C, 28 C, 29 C, 30 C, 31 C, 32 C, 33 C, 34 C, 35 C, 36 C, 37 C, 38 C, 39 C, 40 C
text: Конт.; Цепь

## PLD127-40(2)
designator X?  value PLLD1.27-40S  (hidden comment: PLD127-40(2))
footprint PLLD127-40S
part A pins: 1 C, 3 C, 5 C, 7 C, 9 C, 11 C, 13 C, 15 C, 17 C, 19 C, 21 C, 23 C, 25 C, 27 C, 29 C, 31 C, 33 C, 35 C, 37 C, 39 C
part B pins: 2 C, 4 C, 6 C, 8 C, 10 C, 12 C, 14 C, 16 C, 18 C, 20 C, 22 C, 24 C, 26 C, 28 C, 30 C, 32 C, 34 C, 36 C, 38 C, 40 C
part A text: Конт.; Цепь
part B text: Конт.; Цепь

## PLD-6
designator XP?
Value: PLD-6
footprint PLD-6
footprint PLD-6R
footprint BH-6
pins: 1, 2, 3, 4, 5, 6
text: Конт.; Цепь

## PLD-8
designator XP?
Value: PLD-8
footprint PLD-8
footprint PLD-8R
footprint BH-8
pins: 1, 2, 3, 4, 5, 6, 7, 8
text: Конт.; Цепь

## PLD-10
designator XP?
Value: PLD-10
footprint PLD-10
footprint PLD-10R
footprint BH-10
footprint BH-10-SMD
pins: 1, 2, 3, 4, 5, 6, 7, 8, 9, 10
text: Конт.; Цепь

## PLD-14
designator XP?
Value: PLD-14
footprint PLD-14
footprint BH-14
pins: 1, 2, 3, 4, 5, 6, 7, 8, 9, 10, 11, 12, 13, 14
text: Конт.; Цепь

## PLD-16
designator XP?
Value: PLD-16
footprint PLD-16
pins: 1, 2, 3, 4, 5, 6, 7, 8, 9, 10, 11, 12, 13, 14, 15, 16
text: Конт.; Цепь

## PLD-20
designator XP?
Value: PLD-20
footprint PLD-20
footprint PLD-20R
footprint BH-20
pins: 1, 2, 3, 4, 5, 6, 7, 8, 9, 10, 11, 12, 13, 14, 15, 16, 17, 18, 19, 20
text: Конт.; Цепь

## PLD-20R-INVERTED
designator X?  value PLD-20R  (hidden comment: PLD-20R-INVERTED)
footprint PLD-20R-INVERTED
pins: 1 C, 2 C, 3 C, 4 C, 5 C, 6 C, 7 C, 8 C, 9 C, 10 C, 11 C, 12 C, 13 C, 14 C, 15 C, 16 C, 17 C, 18 C, 19 C, 20 C
text: Конт.; Цепь

## PLD-24
designator XP?
Value: PLD-24
footprint PLD-24
pins: 1, 2, 3, 4, 5, 6, 7, 8, 9, 10, 11, 12, 13, 14, 15, 16, 17, 18, 19, 20, 21, 22, 23, 24
text: Конт.; Цепь

## PLD-26
designator XP?
Value: PLD-26
footprint PLD-26
pins: 1, 2, 3, 4, 5, 6, 7, 8, 9, 10, 11, 12, 13, 14, 15, 16, 17, 18, 19, 20, 21, 22, 23, 24, 25, 26
text: Конт.; Цепь

## PLD-40
designator XP?
Value: PLD-40
footprint PLD-40
pins: 1, 2, 3, 4, 5, 6, 7, 8, 9, 10, 11, 12, 13, 14, 15, 16, 17, 18, 19, 20, 21, 22, 23, 24, 25, 26, 27, 28, 29, 30, 31, 32, 33, 34, 35, 36, 37, 38, 39, 40
text: Конт.; Цепь

## PLD-46
designator XP?
Value: PLD-46
footprint PLD-46
pins: 1, 2, 3, 4, 5, 6, 7, 8, 9, 10, 11, 12, 13, 14, 15, 16, 17, 18, 19, 20, 21, 22, 23, 24, 25, 26, 27, 28, 29, 30, 31, 32, 33, 34, 35, 36, 37, 38, 39, 40, 41, 42, 43, 44, 45, 46
text: Конт.; Цепь

## PLD-46(2)
designator XP?, comment PLD-46
Value: PLD-46
footprint PLD-46
part A pins: 1, 3, 5, 7, 9, 11, 13, 15, 17, 19, 21, 23, 25, 27, 29, 31, 33, 35, 37, 39, 41, 43, 45
part B pins: 2, 4, 6, 8, 10, 12, 14, 16, 18, 20, 22, 24, 26, 28, 30, 32, 34, 36, 38, 40, 42, 44, 46
part A text: Конт.; Цепь
part B text: Конт.; Цепь

## PLS2-2
designator XP?
2mm pitch; Value: PLS2-2
footprint PLS2-2
pins: 1, 2
text: Конт.; Цепь

## PLS2-3
designator XP?
2mm pitch; Value: PLS2-3
footprint PLS2-3
pins: 1, 2, 3
text: Конт.; Цепь

## PLS2-4
designator XP?
2mm pitch; Value: PLS2-4
footprint PLS2-4
pins: 1, 2, 3, 4
text: Конт.; Цепь

## PLS2-5
designator XP?
2mm pitch; Value: PLS2-5
footprint PLS2-5
pins: 1, 2, 3, 4, 5
text: Конт.; Цепь

## PLS2-6
designator XP?
2mm pitch; Value: PLS2-6
footprint PLS2-6
pins: 1, 2, 3, 4, 5, 6
text: Конт.; Цепь

## PLS-1
designator XP?
Value: PLS-1
footprint PLS-1
pins: 1

## PLS-2
designator XP?
2,54mm pitch; Value: PLS-2
footprint PLD-2
pins: 1, 2
text: Конт.; Цепь

## PLS-3
designator XP?
2,54mm pitch; Value: PLS-3
footprint PLS-3
pins: 1, 2, 3
text: Конт.; Цепь

## PLS-4
designator XP?
2,54mm pitch; Value: PLS-4
footprint PLS-4 (Footprint not found)
pins: 1, 2, 3, 4
text: Конт.; Цепь

## PLS-5
designator XP?
2,54mm pitch; Value: PLS-5
footprint PLS-5
pins: 1, 2, 3, 4, 5
text: Конт.; Цепь

## PLS-6
designator XP?
2,54mm pitch; Value: PLS-6
footprint PLS-6
pins: 1, 2, 3, 4, 5, 6
text: Конт.; Цепь

## PLS-8
designator XP?
2,54mm pitch; Value: PLS-8
footprint PLS-8
pins: 1, 2, 3, 4, 5, 6, 7, 8
text: Конт.; Цепь

## PLS-10
designator XP?
2,54mm pitch; Value: PLS-10
footprint PLS-10
pins: 1, 2, 3, 4, 5, 6, 7, 8, 9, 10
text: Конт.; Цепь

## PLS-12
designator XP?
2,54mm pitch; Value: PLS-12
footprint PLS-12
pins: 1, 2, 3, 4, 5, 6, 7, 8, 9, 10, 11, 12
text: Конт.; Цепь

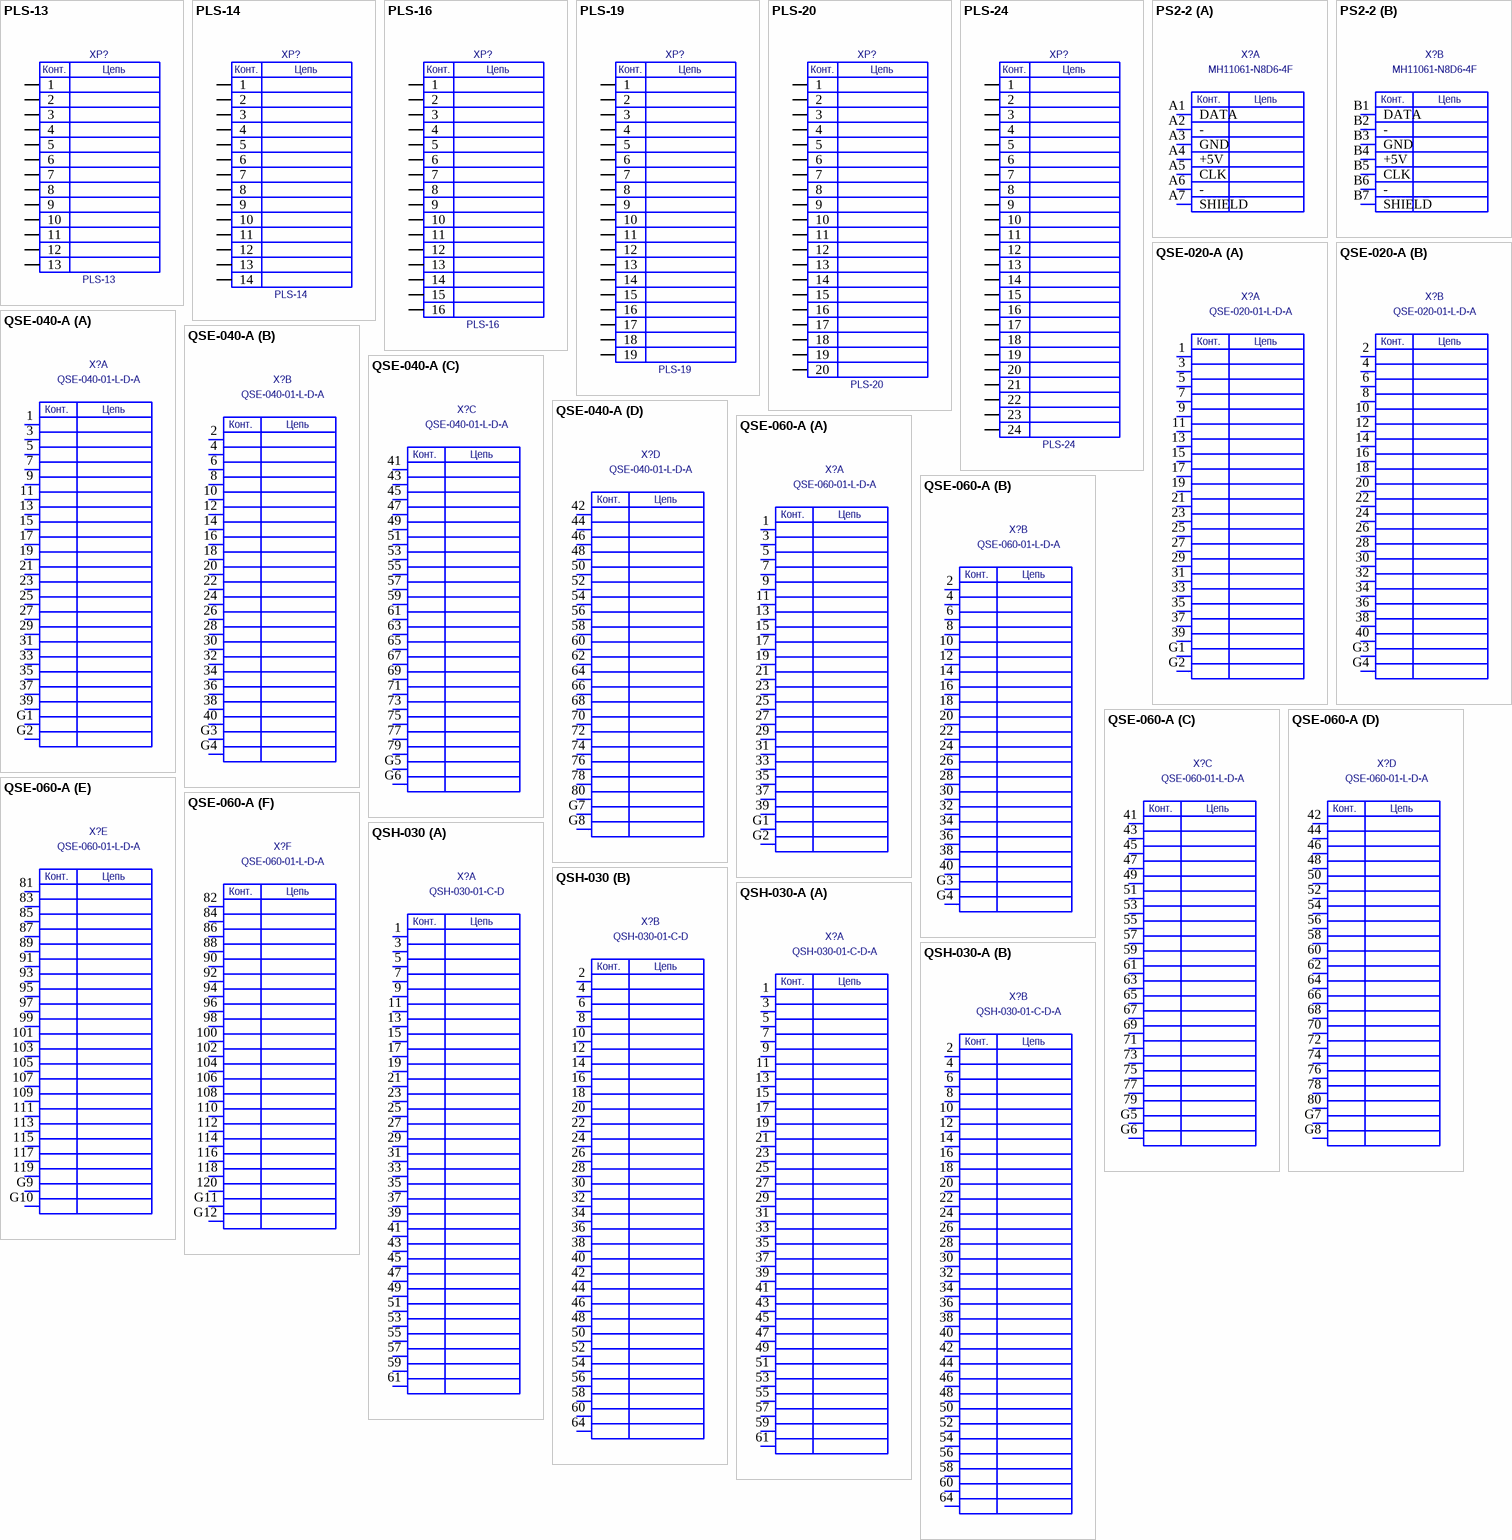
[diagram p9: symbols PLS-13 to QSH-030-A]

## PLS-13
designator XP?
2,54mm pitch; Value: PLS-13
footprint PLS-13
pins: 1, 2, 3, 4, 5, 6, 7, 8, 9, 10, 11, 12, 13
text: Конт.; Цепь

## PLS-14
designator XP?
2,54mm pitch; Value: PLS-14
footprint PLS-14
footprint PLS-14R
pins: 1, 2, 3, 4, 5, 6, 7, 8, 9, 10, 11, 12, 13, 14
text: Конт.; Цепь

## PLS-16
designator XP?
2,54mm pitch; Value: PLS-16
footprint PLS-16
pins: 1, 2, 3, 4, 5, 6, 7, 8, 9, 10, 11, 12, 13, 14, 15, 16
text: Конт.; Цепь

## PLS-19
designator XP?
2,54mm pitch; Value: PLS-19
footprint PLS-19
pins: 1, 2, 3, 4, 5, 6, 7, 8, 9, 10, 11, 12, 13, 14, 15, 16, 17, 18, 19
text: Конт.; Цепь

## PLS-20
designator XP?
2,54mm pitch; Value: PLS-20
footprint PLS-20
pins: 1, 2, 3, 4, 5, 6, 7, 8, 9, 10, 11, 12, 13, 14, 15, 16, 17, 18, 19, 20
text: Конт.; Цепь

## PLS-24
designator XP?
Value: PLS-24
footprint PLS-24
footprint PLS-24R
pins: 1, 2, 3, 4, 5, 6, 7, 8, 9, 10, 11, 12, 13, 14, 15, 16, 17, 18, 19, 20, 21, 22, 23, 24
text: Конт.; Цепь

## PS2-2
designator X?  value MH11061-N8D6-4F  (hidden comment: PS2-2)
footprint PS2-2_PS2-2(Primary)
pins on every part: A8 hidden, A9 hidden, B8 hidden
part A pins: A1 DATA, A2 -, A3 GND, A4 +5V, A5 CLK, A6 -, A7 SHIELD
part B pins: B1 DATA, B2 -, B3 GND, B4 +5V, B5 CLK, B6 -, B7 SHIELD
part A text: Конт.; Цепь
part B text: Конт.; Цепь

## QSE-020-A
designator X?  value QSE-020-01-L-D-A  (hidden comment: QSE-020-A)
footprint QSE-020-A
pins on every part: 45 hidden, 46 hidden
part A pins: 1 C, 3 C, 5 C, 7 C, 9 C, 11 C, 13 C, 15 C, 17 C, 19 C, 21 C, 23 C, 25 C, 27 C, 29 C, 31 C, 33 C, 35 C, 37 C, 39 C, G1 GND, G2 GND
part B pins: 2 C, 4 C, 6 C, 8 C, 10 C, 12 C, 14 C, 16 C, 18 C, 20 C, 22 C, 24 C, 26 C, 28 C, 30 C, 32 C, 34 C, 36 C, 38 C, 40 C, G3 GND, G4 GND
part A text: Конт.; Цепь
part B text: Конт.; Цепь

## QSE-040-A
designator X?  value QSE-040-01-L-D-A  (hidden comment: QSE-040-A)
footprint QSE-040-A
pins on every part: 89 hidden, 90 hidden
part A pins: 1 C, 3 C, 5 C, 7 C, 9 C, 11 C, 13 C, 15 C, 17 C, 19 C, 21 C, 23 C, 25 C, 27 C, 29 C, 31 C, 33 C, 35 C, 37 C, 39 C, G1 GND, G2 GND
part B pins: 2 C, 4 C, 6 C, 8 C, 10 C, 12 C, 14 C, 16 C, 18 C, 20 C, 22 C, 24 C, 26 C, 28 C, 30 C, 32 C, 34 C, 36 C, 38 C, 40 C, G3 GND, G4 GND
part C pins: 41 C, 43 C, 45 C, 47 C, 49 C, 51 C, 53 C, 55 C, 57 C, 59 C, 61 C, 63 C, 65 C, 67 C, 69 C, 71 C, 73 C, 75 C, 77 C, 79 C, G5 GND, G6 GND
part D pins: 42 C, 44 C, 46 C, 48 C, 50 C, 52 C, 54 C, 56 C, 58 C, 60 C, 62 C, 64 C, 66 C, 68 C, 70 C, 72 C, 74 C, 76 C, 78 C, 80 C, G7 GND, G8 GND
part A text: Конт.; Цепь
part B text: Конт.; Цепь
part C text: Конт.; Цепь
part D text: Конт.; Цепь

## QSE-060-A
designator X?  value QSE-060-01-L-D-A  (hidden comment: QSE-060-A)
footprint QSE-060-A
pins on every part: 133 hidden, 134 hidden
part A pins: 1 C, 3 C, 5 C, 7 C, 9 C, 11 C, 13 C, 15 C, 17 C, 19 C, 21 C, 23 C, 25 C, 27 C, 29 C, 31 C, 33 C, 35 C, 37 C, 39 C, G1 GND, G2 GND
part B pins: 2 C, 4 C, 6 C, 8 C, 10 C, 12 C, 14 C, 16 C, 18 C, 20 C, 22 C, 24 C, 26 C, 28 C, 30 C, 32 C, 34 C, 36 C, 38 C, 40 C, G3 GND, G4 GND
part C pins: 41 C, 43 C, 45 C, 47 C, 49 C, 51 C, 53 C, 55 C, 57 C, 59 C, 61 C, 63 C, 65 C, 67 C, 69 C, 71 C, 73 C, 75 C, 77 C, 79 C, G5 GND, G6 GND
part D pins: 42 C, 44 C, 46 C, 48 C, 50 C, 52 C, 54 C, 56 C, 58 C, 60 C, 62 C, 64 C, 66 C, 68 C, 70 C, 72 C, 74 C, 76 C, 78 C, 80 C, G7 GND, G8 GND
part E pins: 81 C, 83 C, 85 C, 87 C, 89 C, 91 C, 93 C, 95 C, 97 C, 99 C, 101 C, 103 C, 105 C, 107 C, 109 C, 111 C, 113 C, 115 C, 117 C, 119 C, G9 GND, G10 GND
part F pins: 82 C, 84 C, 86 C, 88 C, 90 C, 92 C, 94 C, 96 C, 98 C, 100 C, 102 C, 104 C, 106 C, 108 C, 110 C, 112 C, 114 C, 116 C, 118 C, 120 C, G11 GND, G12 GND
part A text: Конт.; Цепь
part B text: Конт.; Цепь
part C text: Конт.; Цепь
part D text: Конт.; Цепь
part E text: Конт.; Цепь
part F text: Конт.; Цепь

## QSH-030
designator X?  value QSH-030-01-C-D  (hidden comment: QSH-030)
footprint QSH-030
pins on every part: 62 hidden, 63 hidden
part A pins: 1 C, 3 C, 5 C, 7 C, 9 C, 11 C, 13 C, 15 C, 17 C, 19 C, 21 C, 23 C, 25 C, 27 C, 29 C, 31 C, 33 C, 35 C, 37 C, 39 C, 41 C, 43 C, 45 C, 47 C, 49 C, 51 C, 53 C, 55 C, 57 C, 59 C, 61 C
part B pins: 2 C, 4 C, 6 C, 8 C, 10 C, 12 C, 14 C, 16 C, 18 C, 20 C, 22 C, 24 C, 26 C, 28 C, 30 C, 32 C, 34 C, 36 C, 38 C, 40 C, 42 C, 44 C, 46 C, 48 C, 50 C, 52 C, 54 C, 56 C, 58 C, 60 C, 64 C
part A text: Конт.; Цепь
part B text: Конт.; Цепь

## QSH-030-A
designator X?  value QSH-030-01-C-D-A  (hidden comment: QSH-030-A)
footprint QSH-030-A
pins on every part: 62 hidden, 63 hidden, 65 hidden, 66 hidden
part A pins: 1 C, 3 C, 5 C, 7 C, 9 C, 11 C, 13 C, 15 C, 17 C, 19 C, 21 C, 23 C, 25 C, 27 C, 29 C, 31 C, 33 C, 35 C, 37 C, 39 C, 41 C, 43 C, 45 C, 47 C, 49 C, 51 C, 53 C, 55 C, 57 C, 59 C, 61 C
part B pins: 2 C, 4 C, 6 C, 8 C, 10 C, 12 C, 14 C, 16 C, 18 C, 20 C, 22 C, 24 C, 26 C, 28 C, 30 C, 32 C, 34 C, 36 C, 38 C, 40 C, 42 C, 44 C, 46 C, 48 C, 50 C, 52 C, 54 C, 56 C, 58 C, 60 C, 64 C
part A text: Конт.; Цепь
part B text: Конт.; Цепь

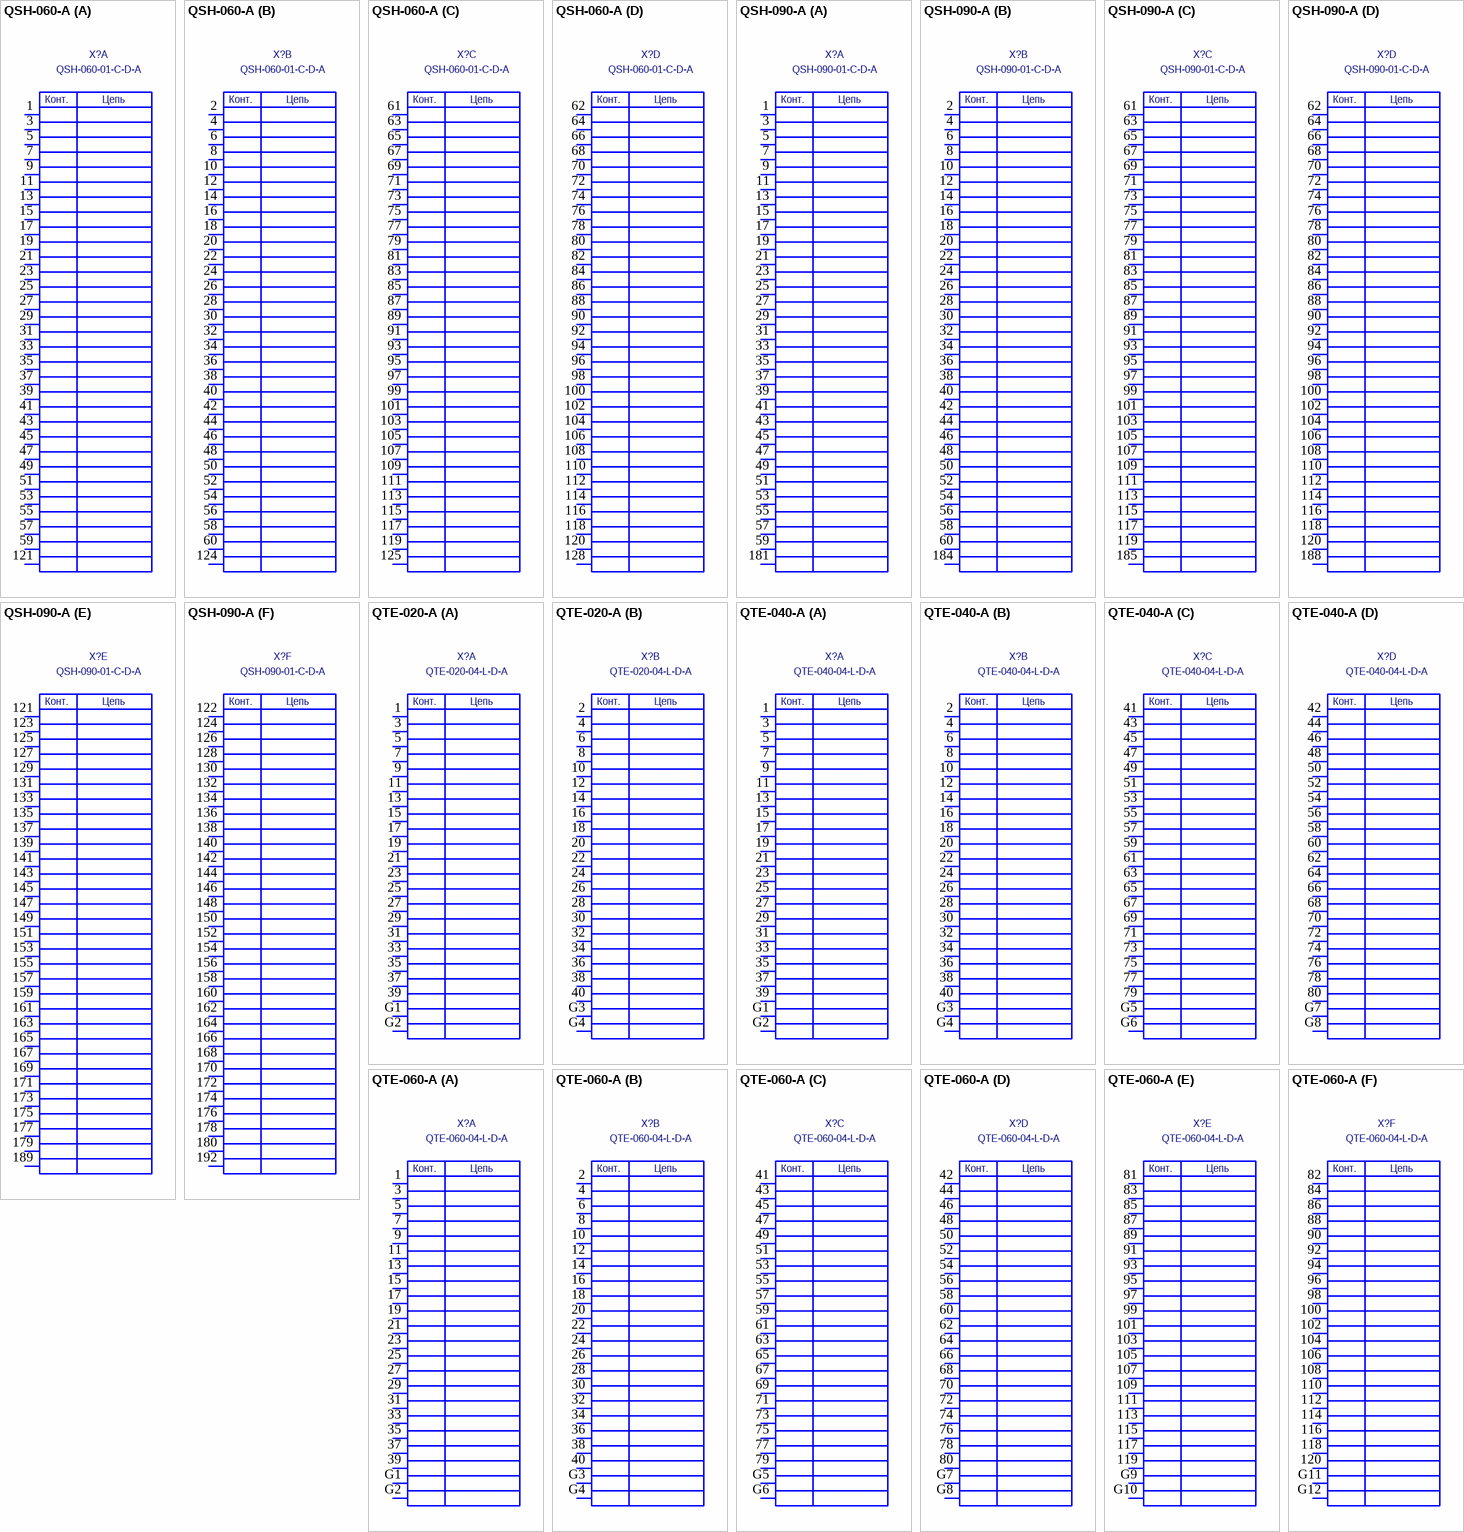
[diagram p10: symbols QSH-060-A to QTE-060-A]

## QSH-060-A
designator X?  value QSH-060-01-C-D-A  (hidden comment: QSH-060-A)
footprint QSH-060-A
pins on every part: 122 hidden, 123 hidden, 126 hidden, 127 hidden, 129 hidden, 130 hidden
part A pins: 1 C, 3 C, 5 C, 7 C, 9 C, 11 C, 13 C, 15 C, 17 C, 19 C, 21 C, 23 C, 25 C, 27 C, 29 C, 31 C, 33 C, 35 C, 37 C, 39 C, 41 C, 43 C, 45 C, 47 C, 49 C, 51 C, 53 C, 55 C, 57 C, 59 C, 121 C
part B pins: 2 C, 4 C, 6 C, 8 C, 10 C, 12 C, 14 C, 16 C, 18 C, 20 C, 22 C, 24 C, 26 C, 28 C, 30 C, 32 C, 34 C, 36 C, 38 C, 40 C, 42 C, 44 C, 46 C, 48 C, 50 C, 52 C, 54 C, 56 C, 58 C, 60 C, 124 C
part C pins: 61 C, 63 C, 65 C, 67 C, 69 C, 71 C, 73 C, 75 C, 77 C, 79 C, 81 C, 83 C, 85 C, 87 C, 89 C, 91 C, 93 C, 95 C, 97 C, 99 C, 101 C, 103 C, 105 C, 107 C, 109 C, 111 C, 113 C, 115 C, 117 C, 119 C, 125 C
part D pins: 62 C, 64 C, 66 C, 68 C, 70 C, 72 C, 74 C, 76 C, 78 C, 80 C, 82 C, 84 C, 86 C, 88 C, 90 C, 92 C, 94 C, 96 C, 98 C, 100 C, 102 C, 104 C, 106 C, 108 C, 110 C, 112 C, 114 C, 116 C, 118 C, 120 C, 128 C
part A text: Конт.; Цепь
part B text: Конт.; Цепь
part C text: Конт.; Цепь
part D text: Конт.; Цепь

## QSH-090-A
designator X?  value QSH-090-01-C-D-A  (hidden comment: QSH-090-A)
footprint QSH-090-A
pins on every part: 182 hidden, 183 hidden, 186 hidden, 187 hidden, 190 hidden, 191 hidden, 193 hidden, 194 hidden
part A pins: 1 C, 3 C, 5 C, 7 C, 9 C, 11 C, 13 C, 15 C, 17 C, 19 C, 21 C, 23 C, 25 C, 27 C, 29 C, 31 C, 33 C, 35 C, 37 C, 39 C, 41 C, 43 C, 45 C, 47 C, 49 C, 51 C, 53 C, 55 C, 57 C, 59 C, 181 C
part B pins: 2 C, 4 C, 6 C, 8 C, 10 C, 12 C, 14 C, 16 C, 18 C, 20 C, 22 C, 24 C, 26 C, 28 C, 30 C, 32 C, 34 C, 36 C, 38 C, 40 C, 42 C, 44 C, 46 C, 48 C, 50 C, 52 C, 54 C, 56 C, 58 C, 60 C, 184 C
part C pins: 61 C, 63 C, 65 C, 67 C, 69 C, 71 C, 73 C, 75 C, 77 C, 79 C, 81 C, 83 C, 85 C, 87 C, 89 C, 91 C, 93 C, 95 C, 97 C, 99 C, 101 C, 103 C, 105 C, 107 C, 109 C, 111 C, 113 C, 115 C, 117 C, 119 C, 185 C
part D pins: 62 C, 64 C, 66 C, 68 C, 70 C, 72 C, 74 C, 76 C, 78 C, 80 C, 82 C, 84 C, 86 C, 88 C, 90 C, 92 C, 94 C, 96 C, 98 C, 100 C, 102 C, 104 C, 106 C, 108 C, 110 C, 112 C, 114 C, 116 C, 118 C, 120 C, 188 C
part E pins: 121 C, 123 C, 125 C, 127 C, 129 C, 131 C, 133 C, 135 C, 137 C, 139 C, 141 C, 143 C, 145 C, 147 C, 149 C, 151 C, 153 C, 155 C, 157 C, 159 C, 161 C, 163 C, 165 C, 167 C, 169 C, 171 C, 173 C, 175 C, 177 C, 179 C, 189 C
part F pins: 122 C, 124 C, 126 C, 128 C, 130 C, 132 C, 134 C, 136 C, 138 C, 140 C, 142 C, 144 C, 146 C, 148 C, 150 C, 152 C, 154 C, 156 C, 158 C, 160 C, 162 C, 164 C, 166 C, 168 C, 170 C, 172 C, 174 C, 176 C, 178 C, 180 C, 192 C
part A text: Конт.; Цепь
part B text: Конт.; Цепь
part C text: Конт.; Цепь
part D text: Конт.; Цепь
part E text: Конт.; Цепь
part F text: Конт.; Цепь